# Altium integrated library Lattice CPLD ispMACH.IntLib: 663 symbols (part 22 of 48)
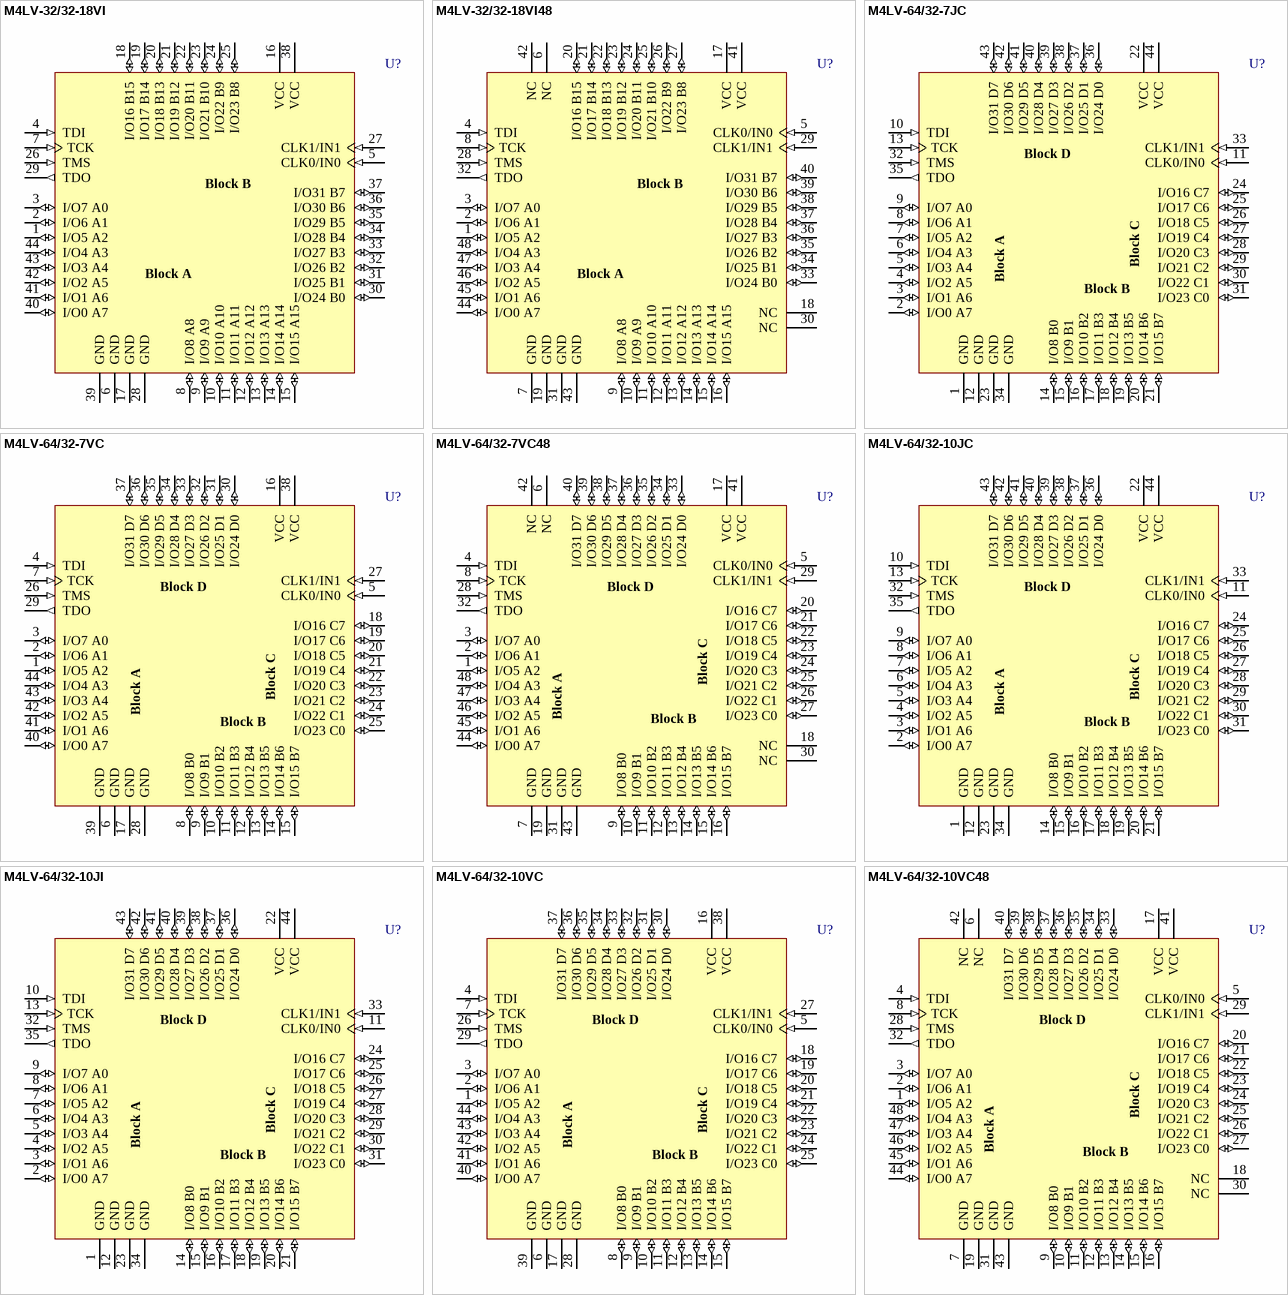
[diagram p327: symbols M4LV-32/32-18VI to M4LV-64/32-10VC48]

## M4LV-64/32-7VC48
designator U?
High-Performance EE CMOS In-System Programmable Logic; Published: 23-Sep-2002; LatestRevisionDate: 13-Apr-2006; LatestRevisionNote: IPC-7351 Footprint Added.; DatasheetVersion: Mar-2000; PackageVersion: pkg_32, Aug-2005; PackageReference: TQFP48; Publisher: Altium Limited; PackageDescription: 48-Pin Thin Quad Flat Pack 0.5 mm Pitch; ComponentLink1Description: Manufacturer Link; ComponentLink1URL: http://www.latticesemi.com/products/mature/index.cfm; ComponentLink2Description: Datasheet; ComponentLink2URL: http://www.latticesemi.com/lit/docs/datasheets/cpld/mach4.pdf
footprint TQFP48_N (Thin QFP, 48-Leads, Body 7x7mm, Pitch 0.5mm, IPC Medium Density)
footprint TQFP48_L (Thin QFP, 48-Leads, Body 7x7mm, Pitch 0.5mm, IPC High Density)
footprint TQFP48_M (Thin QFP, 48-Leads, Body 7x7mm, Pitch 0.5mm, IPC Low Density)
3D model M4LV-TQFP48 (48-Pin Thin Quad Flat Pack 0.5 mm Pitch)
pins: 1 I/O5 A2 (io), 2 I/O6 A1 (io), 3 I/O7 A0 (io), 4 TDI (in), 5 CLK0/IN0 (in), 6 NC, 7 GND (power), 8 TCK (in), 9 I/O8 B0 (io), 10 I/O9 B1 (io), 11 I/O10 B2 (io), 12 I/O11 B3 (io), 13 I/O12 B4 (io), 14 I/O13 B5 (io), 15 I/O14 B6 (io), 16 I/O15 B7 (io), 17 VCC (power), 18 NC, 19 GND (power), 20 I/O16 C7 (io), 21 I/O17 C6 (io), 22 I/O18 C5 (io), 23 I/O19 C4 (io), 24 I/O20 C3 (io), 25 I/O21 C2 (io), 26 I/O22 C1 (io), 27 I/O23 C0 (io), 28 TMS (in), 29 CLK1/IN1 (in), 30 NC, 31 GND (power), 32 TDO (out), 33 I/O24 D0 (io), 34 I/O25 D1 (io), 35 I/O26 D2 (io), 36 I/O27 D3 (io), 37 I/O28 D4 (io), 38 I/O29 D5 (io), 39 I/O30 D6 (io), 40 I/O31 D7 (io), 41 VCC (power), 42 NC, 43 GND (power), 44 I/O0 A7 (io), 45 I/O1 A6 (io), 46 I/O2 A5 (io), 47 I/O3 A4 (io), 48 I/O4 A3 (io)
text: Block D; Block C; Block A; Block B

## M4LV-64/32-10JC
designator U?
High-Performance EE CMOS In-System Programmable Logic; Published: 23-Sep-2002; LatestRevisionDate: 13-Apr-2006; LatestRevisionNote: IPC-7351 Footprint Added.; DatasheetVersion: Mar-2000; PackageVersion: pkg_32, Aug-2005; PackageReference: PLCC44; Publisher: Altium Limited; PackageDescription: 44-Pin Leaded Chip Carrier 1.27 mm Pitch; Code_IPC: PLCC-44; ComponentLink1Description: Manufacturer Link; ComponentLink1URL: http://www.latticesemi.com/products/mature/index.cfm; ComponentLink2Description: Datasheet; ComponentLink2URL: http://www.latticesemi.com/lit/docs/datasheets/cpld/mach4.pdf
footprint PLCC44_N (Leaded Chip Carrier, 44-Leads, Body 16.6x16.6mm, Pitch 1.27mm, IPC Medium Density)
footprint PLCC44_L (Leaded Chip Carrier, 44-Leads, Body 16.6x16.6mm, Pitch 1.27mm, IPC High Density)
footprint PLCC44_M (Leaded Chip Carrier, 44-Leads, Body 16.6x16.6mm, Pitch 1.27mm, IPC Low Density)
3D model M4LV-PLCC44 (44-Pin Leaded Chip Carrier 1.27 mm Pitch)
pins: 1 GND (power), 2 I/O0 A7 (io), 3 I/O1 A6 (io), 4 I/O2 A5 (io), 5 I/O3 A4 (io), 6 I/O4 A3 (io), 7 I/O5 A2 (io), 8 I/O6 A1 (io), 9 I/O7 A0 (io), 10 TDI (in), 11 CLK0/IN0 (in), 12 GND (power), 13 TCK (in), 14 I/O8 B0 (io), 15 I/O9 B1 (io), 16 I/O10 B2 (io), 17 I/O11 B3 (io), 18 I/O12 B4 (io), 19 I/O13 B5 (io), 20 I/O14 B6 (io), 21 I/O15 B7 (io), 22 VCC (power), 23 GND (power), 24 I/O16 C7 (io), 25 I/O17 C6 (io), 26 I/O18 C5 (io), 27 I/O19 C4 (io), 28 I/O20 C3 (io), 29 I/O21 C2 (io), 30 I/O22 C1 (io), 31 I/O23 C0 (io), 32 TMS (in), 33 CLK1/IN1 (in), 34 GND (power), 35 TDO (out), 36 I/O24 D0 (io), 37 I/O25 D1 (io), 38 I/O26 D2 (io), 39 I/O27 D3 (io), 40 I/O28 D4 (io), 41 I/O29 D5 (io), 42 I/O30 D6 (io), 43 I/O31 D7 (io), 44 VCC (power)
text: Block D; Block C; Block A; Block B

## M4LV-64/32-10JI
designator U?
High-Performance EE CMOS In-System Programmable Logic; Published: 23-Sep-2002; LatestRevisionDate: 13-Apr-2006; LatestRevisionNote: IPC-7351 Footprint Added.; DatasheetVersion: Mar-2000; PackageVersion: pkg_32, Aug-2005; PackageReference: PLCC44; Publisher: Altium Limited; PackageDescription: 44-Pin Leaded Chip Carrier 1.27 mm Pitch; Code_IPC: PLCC-44; ComponentLink1Description: Manufacturer Link; ComponentLink1URL: http://www.latticesemi.com/products/mature/index.cfm; ComponentLink2Description: Datasheet; ComponentLink2URL: http://www.latticesemi.com/lit/docs/datasheets/cpld/mach4.pdf
footprint PLCC44_N (Leaded Chip Carrier, 44-Leads, Body 16.6x16.6mm, Pitch 1.27mm, IPC Medium Density)
footprint PLCC44_L (Leaded Chip Carrier, 44-Leads, Body 16.6x16.6mm, Pitch 1.27mm, IPC High Density)
footprint PLCC44_M (Leaded Chip Carrier, 44-Leads, Body 16.6x16.6mm, Pitch 1.27mm, IPC Low Density)
3D model M4LV-PLCC44 (44-Pin Leaded Chip Carrier 1.27 mm Pitch)
pins: 1 GND (power), 2 I/O0 A7 (io), 3 I/O1 A6 (io), 4 I/O2 A5 (io), 5 I/O3 A4 (io), 6 I/O4 A3 (io), 7 I/O5 A2 (io), 8 I/O6 A1 (io), 9 I/O7 A0 (io), 10 TDI (in), 11 CLK0/IN0 (in), 12 GND (power), 13 TCK (in), 14 I/O8 B0 (io), 15 I/O9 B1 (io), 16 I/O10 B2 (io), 17 I/O11 B3 (io), 18 I/O12 B4 (io), 19 I/O13 B5 (io), 20 I/O14 B6 (io), 21 I/O15 B7 (io), 22 VCC (power), 23 GND (power), 24 I/O16 C7 (io), 25 I/O17 C6 (io), 26 I/O18 C5 (io), 27 I/O19 C4 (io), 28 I/O20 C3 (io), 29 I/O21 C2 (io), 30 I/O22 C1 (io), 31 I/O23 C0 (io), 32 TMS (in), 33 CLK1/IN1 (in), 34 GND (power), 35 TDO (out), 36 I/O24 D0 (io), 37 I/O25 D1 (io), 38 I/O26 D2 (io), 39 I/O27 D3 (io), 40 I/O28 D4 (io), 41 I/O29 D5 (io), 42 I/O30 D6 (io), 43 I/O31 D7 (io), 44 VCC (power)
text: Block D; Block C; Block A; Block B

## M4LV-64/32-10VC
designator U?
High-Performance EE CMOS In-System Programmable Logic; Published: 23-Sep-2002; LatestRevisionDate: 13-Apr-2006; LatestRevisionNote: IPC-7351 Footprint Added.; DatasheetVersion: Mar-2000; PackageVersion: pkg_32, Aug-2005; PackageReference: TQFP44; Publisher: Altium Limited; PackageDescription: 44-Pin Thin Quad Flat Pack 0.8 mm Pitch; ComponentLink1Description: Manufacturer Link; ComponentLink1URL: http://www.latticesemi.com/products/mature/index.cfm; ComponentLink2Description: Datasheet; ComponentLink2URL: http://www.latticesemi.com/lit/docs/datasheets/cpld/mach4.pdf
footprint TQFP44_N (Thin QFP, 44-Leads, Body 10x10mm, Pitch 0.8mm, IPC Medium Density)
footprint TQFP44_L (Thin QFP, 44-Leads, Body 10x10mm, Pitch 0.8mm, IPC High Density)
footprint TQFP44_M (Thin QFP, 44-Leads, Body 10x10mm, Pitch 0.8mm, IPC Low Density)
3D model M4LV-TQFP44 (44-Pin Thin Quad Flat Pack 0.8 mm Pitch)
pins: 1 I/O5 A2 (io), 2 I/O6 A1 (io), 3 I/O7 A0 (io), 4 TDI (in), 5 CLK0/IN0 (in), 6 GND (power), 7 TCK (in), 8 I/O8 B0 (io), 9 I/O9 B1 (io), 10 I/O10 B2 (io), 11 I/O11 B3 (io), 12 I/O12 B4 (io), 13 I/O13 B5 (io), 14 I/O14 B6 (io), 15 I/O15 B7 (io), 16 VCC (power), 17 GND (power), 18 I/O16 C7 (io), 19 I/O17 C6 (io), 20 I/O18 C5 (io), 21 I/O19 C4 (io), 22 I/O20 C3 (io), 23 I/O21 C2 (io), 24 I/O22 C1 (io), 25 I/O23 C0 (io), 26 TMS (in), 27 CLK1/IN1 (in), 28 GND (power), 29 TDO (out), 30 I/O24 D0 (io), 31 I/O25 D1 (io), 32 I/O26 D2 (io), 33 I/O27 D3 (io), 34 I/O28 D4 (io), 35 I/O29 D5 (io), 36 I/O30 D6 (io), 37 I/O31 D7 (io), 38 VCC (power), 39 GND (power), 40 I/O0 A7 (io), 41 I/O1 A6 (io), 42 I/O2 A5 (io), 43 I/O3 A4 (io), 44 I/O4 A3 (io)
text: Block D; Block C; Block A; Block B

## M4LV-64/32-10VC48
designator U?
High-Performance EE CMOS In-System Programmable Logic; Published: 23-Sep-2002; LatestRevisionDate: 13-Apr-2006; LatestRevisionNote: IPC-7351 Footprint Added.; DatasheetVersion: Mar-2000; PackageVersion: pkg_32, Aug-2005; PackageReference: TQFP48; Publisher: Altium Limited; PackageDescription: 48-Pin Thin Quad Flat Pack 0.5 mm Pitch; ComponentLink1Description: Manufacturer Link; ComponentLink1URL: http://www.latticesemi.com/products/mature/index.cfm; ComponentLink2Description: Datasheet; ComponentLink2URL: http://www.latticesemi.com/lit/docs/datasheets/cpld/mach4.pdf
footprint TQFP48_N (Thin QFP, 48-Leads, Body 7x7mm, Pitch 0.5mm, IPC Medium Density)
footprint TQFP48_L (Thin QFP, 48-Leads, Body 7x7mm, Pitch 0.5mm, IPC High Density)
footprint TQFP48_M (Thin QFP, 48-Leads, Body 7x7mm, Pitch 0.5mm, IPC Low Density)
3D model M4LV-TQFP48 (48-Pin Thin Quad Flat Pack 0.5 mm Pitch)
pins: 1 I/O5 A2 (io), 2 I/O6 A1 (io), 3 I/O7 A0 (io), 4 TDI (in), 5 CLK0/IN0 (in), 6 NC, 7 GND (power), 8 TCK (in), 9 I/O8 B0 (io), 10 I/O9 B1 (io), 11 I/O10 B2 (io), 12 I/O11 B3 (io), 13 I/O12 B4 (io), 14 I/O13 B5 (io), 15 I/O14 B6 (io), 16 I/O15 B7 (io), 17 VCC (power), 18 NC, 19 GND (power), 20 I/O16 C7 (io), 21 I/O17 C6 (io), 22 I/O18 C5 (io), 23 I/O19 C4 (io), 24 I/O20 C3 (io), 25 I/O21 C2 (io), 26 I/O22 C1 (io), 27 I/O23 C0 (io), 28 TMS (in), 29 CLK1/IN1 (in), 30 NC, 31 GND (power), 32 TDO (out), 33 I/O24 D0 (io), 34 I/O25 D1 (io), 35 I/O26 D2 (io), 36 I/O27 D3 (io), 37 I/O28 D4 (io), 38 I/O29 D5 (io), 39 I/O30 D6 (io), 40 I/O31 D7 (io), 41 VCC (power), 42 NC, 43 GND (power), 44 I/O0 A7 (io), 45 I/O1 A6 (io), 46 I/O2 A5 (io), 47 I/O3 A4 (io), 48 I/O4 A3 (io)
text: Block D; Block C; Block A; Block B

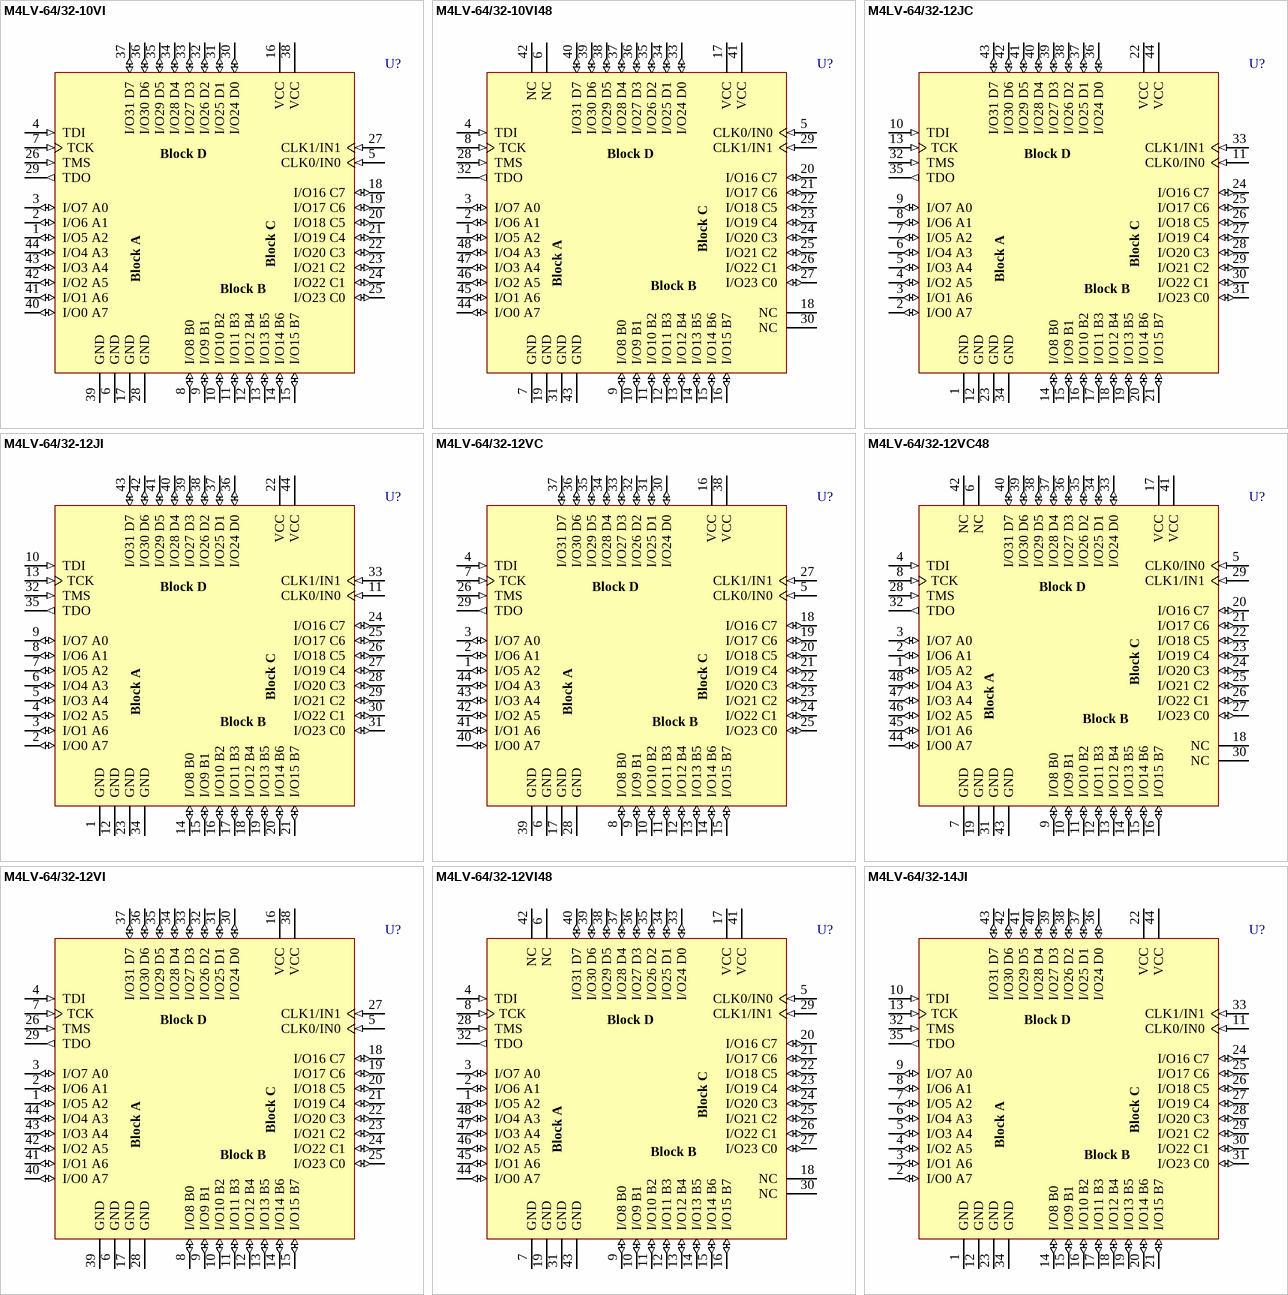
[diagram p133: symbols M4LV-64/32-10VI to M4LV-64/32-14JI]

## M4LV-64/32-10VI
designator U?
High-Performance EE CMOS In-System Programmable Logic; Published: 23-Sep-2002; LatestRevisionDate: 13-Apr-2006; LatestRevisionNote: IPC-7351 Footprint Added.; DatasheetVersion: Mar-2000; PackageVersion: pkg_32, Aug-2005; PackageReference: TQFP44; Publisher: Altium Limited; PackageDescription: 44-Pin Thin Quad Flat Pack 0.8 mm Pitch; ComponentLink1Description: Manufacturer Link; ComponentLink1URL: http://www.latticesemi.com/products/mature/index.cfm; ComponentLink2Description: Datasheet; ComponentLink2URL: http://www.latticesemi.com/lit/docs/datasheets/cpld/mach4.pdf
footprint TQFP44_N (Thin QFP, 44-Leads, Body 10x10mm, Pitch 0.8mm, IPC Medium Density)
footprint TQFP44_L (Thin QFP, 44-Leads, Body 10x10mm, Pitch 0.8mm, IPC High Density)
footprint TQFP44_M (Thin QFP, 44-Leads, Body 10x10mm, Pitch 0.8mm, IPC Low Density)
3D model M4LV-TQFP44 (44-Pin Thin Quad Flat Pack 0.8 mm Pitch)
pins: 1 I/O5 A2 (io), 2 I/O6 A1 (io), 3 I/O7 A0 (io), 4 TDI (in), 5 CLK0/IN0 (in), 6 GND (power), 7 TCK (in), 8 I/O8 B0 (io), 9 I/O9 B1 (io), 10 I/O10 B2 (io), 11 I/O11 B3 (io), 12 I/O12 B4 (io), 13 I/O13 B5 (io), 14 I/O14 B6 (io), 15 I/O15 B7 (io), 16 VCC (power), 17 GND (power), 18 I/O16 C7 (io), 19 I/O17 C6 (io), 20 I/O18 C5 (io), 21 I/O19 C4 (io), 22 I/O20 C3 (io), 23 I/O21 C2 (io), 24 I/O22 C1 (io), 25 I/O23 C0 (io), 26 TMS (in), 27 CLK1/IN1 (in), 28 GND (power), 29 TDO (out), 30 I/O24 D0 (io), 31 I/O25 D1 (io), 32 I/O26 D2 (io), 33 I/O27 D3 (io), 34 I/O28 D4 (io), 35 I/O29 D5 (io), 36 I/O30 D6 (io), 37 I/O31 D7 (io), 38 VCC (power), 39 GND (power), 40 I/O0 A7 (io), 41 I/O1 A6 (io), 42 I/O2 A5 (io), 43 I/O3 A4 (io), 44 I/O4 A3 (io)
text: Block D; Block C; Block A; Block B

## M4LV-64/32-10VI48
designator U?
High-Performance EE CMOS In-System Programmable Logic; Published: 23-Sep-2002; LatestRevisionDate: 13-Apr-2006; LatestRevisionNote: IPC-7351 Footprint Added.; DatasheetVersion: Mar-2000; PackageVersion: pkg_32, Aug-2005; PackageReference: TQFP48; Publisher: Altium Limited; PackageDescription: 48-Pin Thin Quad Flat Pack 0.5 mm Pitch; ComponentLink1Description: Manufacturer Link; ComponentLink1URL: http://www.latticesemi.com/products/mature/index.cfm; ComponentLink2Description: Datasheet; ComponentLink2URL: http://www.latticesemi.com/lit/docs/datasheets/cpld/mach4.pdf
footprint TQFP48_N (Thin QFP, 48-Leads, Body 7x7mm, Pitch 0.5mm, IPC Medium Density)
footprint TQFP48_L (Thin QFP, 48-Leads, Body 7x7mm, Pitch 0.5mm, IPC High Density)
footprint TQFP48_M (Thin QFP, 48-Leads, Body 7x7mm, Pitch 0.5mm, IPC Low Density)
3D model M4LV-TQFP48 (48-Pin Thin Quad Flat Pack 0.5 mm Pitch)
pins: 1 I/O5 A2 (io), 2 I/O6 A1 (io), 3 I/O7 A0 (io), 4 TDI (in), 5 CLK0/IN0 (in), 6 NC, 7 GND (power), 8 TCK (in), 9 I/O8 B0 (io), 10 I/O9 B1 (io), 11 I/O10 B2 (io), 12 I/O11 B3 (io), 13 I/O12 B4 (io), 14 I/O13 B5 (io), 15 I/O14 B6 (io), 16 I/O15 B7 (io), 17 VCC (power), 18 NC, 19 GND (power), 20 I/O16 C7 (io), 21 I/O17 C6 (io), 22 I/O18 C5 (io), 23 I/O19 C4 (io), 24 I/O20 C3 (io), 25 I/O21 C2 (io), 26 I/O22 C1 (io), 27 I/O23 C0 (io), 28 TMS (in), 29 CLK1/IN1 (in), 30 NC, 31 GND (power), 32 TDO (out), 33 I/O24 D0 (io), 34 I/O25 D1 (io), 35 I/O26 D2 (io), 36 I/O27 D3 (io), 37 I/O28 D4 (io), 38 I/O29 D5 (io), 39 I/O30 D6 (io), 40 I/O31 D7 (io), 41 VCC (power), 42 NC, 43 GND (power), 44 I/O0 A7 (io), 45 I/O1 A6 (io), 46 I/O2 A5 (io), 47 I/O3 A4 (io), 48 I/O4 A3 (io)
text: Block D; Block C; Block A; Block B

## M4LV-64/32-12JC
designator U?
High-Performance EE CMOS In-System Programmable Logic; Published: 23-Sep-2002; LatestRevisionDate: 13-Apr-2006; LatestRevisionNote: IPC-7351 Footprint Added.; DatasheetVersion: Mar-2000; PackageVersion: pkg_32, Aug-2005; PackageReference: PLCC44; Publisher: Altium Limited; PackageDescription: 44-Pin Leaded Chip Carrier 1.27 mm Pitch; Code_IPC: PLCC-44; ComponentLink1Description: Manufacturer Link; ComponentLink1URL: http://www.latticesemi.com/products/mature/index.cfm; ComponentLink2Description: Datasheet; ComponentLink2URL: http://www.latticesemi.com/lit/docs/datasheets/cpld/mach4.pdf
footprint PLCC44_N (Leaded Chip Carrier, 44-Leads, Body 16.6x16.6mm, Pitch 1.27mm, IPC Medium Density)
footprint PLCC44_L (Leaded Chip Carrier, 44-Leads, Body 16.6x16.6mm, Pitch 1.27mm, IPC High Density)
footprint PLCC44_M (Leaded Chip Carrier, 44-Leads, Body 16.6x16.6mm, Pitch 1.27mm, IPC Low Density)
3D model M4LV-PLCC44 (44-Pin Leaded Chip Carrier 1.27 mm Pitch)
pins: 1 GND (power), 2 I/O0 A7 (io), 3 I/O1 A6 (io), 4 I/O2 A5 (io), 5 I/O3 A4 (io), 6 I/O4 A3 (io), 7 I/O5 A2 (io), 8 I/O6 A1 (io), 9 I/O7 A0 (io), 10 TDI (in), 11 CLK0/IN0 (in), 12 GND (power), 13 TCK (in), 14 I/O8 B0 (io), 15 I/O9 B1 (io), 16 I/O10 B2 (io), 17 I/O11 B3 (io), 18 I/O12 B4 (io), 19 I/O13 B5 (io), 20 I/O14 B6 (io), 21 I/O15 B7 (io), 22 VCC (power), 23 GND (power), 24 I/O16 C7 (io), 25 I/O17 C6 (io), 26 I/O18 C5 (io), 27 I/O19 C4 (io), 28 I/O20 C3 (io), 29 I/O21 C2 (io), 30 I/O22 C1 (io), 31 I/O23 C0 (io), 32 TMS (in), 33 CLK1/IN1 (in), 34 GND (power), 35 TDO (out), 36 I/O24 D0 (io), 37 I/O25 D1 (io), 38 I/O26 D2 (io), 39 I/O27 D3 (io), 40 I/O28 D4 (io), 41 I/O29 D5 (io), 42 I/O30 D6 (io), 43 I/O31 D7 (io), 44 VCC (power)
text: Block D; Block C; Block A; Block B

## M4LV-64/32-12JI
designator U?
High-Performance EE CMOS In-System Programmable Logic; Published: 23-Sep-2002; LatestRevisionDate: 13-Apr-2006; LatestRevisionNote: IPC-7351 Footprint Added.; DatasheetVersion: Mar-2000; PackageVersion: pkg_32, Aug-2005; PackageReference: PLCC44; Publisher: Altium Limited; PackageDescription: 44-Pin Leaded Chip Carrier 1.27 mm Pitch; Code_IPC: PLCC-44; ComponentLink1Description: Manufacturer Link; ComponentLink1URL: http://www.latticesemi.com/products/mature/index.cfm; ComponentLink2Description: Datasheet; ComponentLink2URL: http://www.latticesemi.com/lit/docs/datasheets/cpld/mach4.pdf
footprint PLCC44_N (Leaded Chip Carrier, 44-Leads, Body 16.6x16.6mm, Pitch 1.27mm, IPC Medium Density)
footprint PLCC44_L (Leaded Chip Carrier, 44-Leads, Body 16.6x16.6mm, Pitch 1.27mm, IPC High Density)
footprint PLCC44_M (Leaded Chip Carrier, 44-Leads, Body 16.6x16.6mm, Pitch 1.27mm, IPC Low Density)
3D model M4LV-PLCC44 (44-Pin Leaded Chip Carrier 1.27 mm Pitch)
pins: 1 GND (power), 2 I/O0 A7 (io), 3 I/O1 A6 (io), 4 I/O2 A5 (io), 5 I/O3 A4 (io), 6 I/O4 A3 (io), 7 I/O5 A2 (io), 8 I/O6 A1 (io), 9 I/O7 A0 (io), 10 TDI (in), 11 CLK0/IN0 (in), 12 GND (power), 13 TCK (in), 14 I/O8 B0 (io), 15 I/O9 B1 (io), 16 I/O10 B2 (io), 17 I/O11 B3 (io), 18 I/O12 B4 (io), 19 I/O13 B5 (io), 20 I/O14 B6 (io), 21 I/O15 B7 (io), 22 VCC (power), 23 GND (power), 24 I/O16 C7 (io), 25 I/O17 C6 (io), 26 I/O18 C5 (io), 27 I/O19 C4 (io), 28 I/O20 C3 (io), 29 I/O21 C2 (io), 30 I/O22 C1 (io), 31 I/O23 C0 (io), 32 TMS (in), 33 CLK1/IN1 (in), 34 GND (power), 35 TDO (out), 36 I/O24 D0 (io), 37 I/O25 D1 (io), 38 I/O26 D2 (io), 39 I/O27 D3 (io), 40 I/O28 D4 (io), 41 I/O29 D5 (io), 42 I/O30 D6 (io), 43 I/O31 D7 (io), 44 VCC (power)
text: Block D; Block C; Block A; Block B

## M4LV-64/32-12VC
designator U?
High-Performance EE CMOS In-System Programmable Logic; Published: 23-Sep-2002; LatestRevisionDate: 13-Apr-2006; LatestRevisionNote: IPC-7351 Footprint Added.; DatasheetVersion: Mar-2000; PackageVersion: pkg_32, Aug-2005; PackageReference: TQFP44; Publisher: Altium Limited; PackageDescription: 44-Pin Thin Quad Flat Pack 0.8 mm Pitch; ComponentLink1Description: Manufacturer Link; ComponentLink1URL: http://www.latticesemi.com/products/mature/index.cfm; ComponentLink2Description: Datasheet; ComponentLink2URL: http://www.latticesemi.com/lit/docs/datasheets/cpld/mach4.pdf
footprint TQFP44_N (Thin QFP, 44-Leads, Body 10x10mm, Pitch 0.8mm, IPC Medium Density)
footprint TQFP44_L (Thin QFP, 44-Leads, Body 10x10mm, Pitch 0.8mm, IPC High Density)
footprint TQFP44_M (Thin QFP, 44-Leads, Body 10x10mm, Pitch 0.8mm, IPC Low Density)
3D model M4LV-TQFP44 (44-Pin Thin Quad Flat Pack 0.8 mm Pitch)
pins: 1 I/O5 A2 (io), 2 I/O6 A1 (io), 3 I/O7 A0 (io), 4 TDI (in), 5 CLK0/IN0 (in), 6 GND (power), 7 TCK (in), 8 I/O8 B0 (io), 9 I/O9 B1 (io), 10 I/O10 B2 (io), 11 I/O11 B3 (io), 12 I/O12 B4 (io), 13 I/O13 B5 (io), 14 I/O14 B6 (io), 15 I/O15 B7 (io), 16 VCC (power), 17 GND (power), 18 I/O16 C7 (io), 19 I/O17 C6 (io), 20 I/O18 C5 (io), 21 I/O19 C4 (io), 22 I/O20 C3 (io), 23 I/O21 C2 (io), 24 I/O22 C1 (io), 25 I/O23 C0 (io), 26 TMS (in), 27 CLK1/IN1 (in), 28 GND (power), 29 TDO (out), 30 I/O24 D0 (io), 31 I/O25 D1 (io), 32 I/O26 D2 (io), 33 I/O27 D3 (io), 34 I/O28 D4 (io), 35 I/O29 D5 (io), 36 I/O30 D6 (io), 37 I/O31 D7 (io), 38 VCC (power), 39 GND (power), 40 I/O0 A7 (io), 41 I/O1 A6 (io), 42 I/O2 A5 (io), 43 I/O3 A4 (io), 44 I/O4 A3 (io)
text: Block D; Block C; Block A; Block B

## M4LV-64/32-12VC48
designator U?
High-Performance EE CMOS In-System Programmable Logic; Published: 23-Sep-2002; LatestRevisionDate: 13-Apr-2006; LatestRevisionNote: IPC-7351 Footprint Added.; DatasheetVersion: Mar-2000; PackageVersion: pkg_32, Aug-2005; PackageReference: TQFP48; Publisher: Altium Limited; PackageDescription: 48-Pin Thin Quad Flat Pack 0.5 mm Pitch; ComponentLink1Description: Manufacturer Link; ComponentLink1URL: http://www.latticesemi.com/products/mature/index.cfm; ComponentLink2Description: Datasheet; ComponentLink2URL: http://www.latticesemi.com/lit/docs/datasheets/cpld/mach4.pdf
footprint TQFP48_N (Thin QFP, 48-Leads, Body 7x7mm, Pitch 0.5mm, IPC Medium Density)
footprint TQFP48_L (Thin QFP, 48-Leads, Body 7x7mm, Pitch 0.5mm, IPC High Density)
footprint TQFP48_M (Thin QFP, 48-Leads, Body 7x7mm, Pitch 0.5mm, IPC Low Density)
3D model M4LV-TQFP48 (48-Pin Thin Quad Flat Pack 0.5 mm Pitch)
pins: 1 I/O5 A2 (io), 2 I/O6 A1 (io), 3 I/O7 A0 (io), 4 TDI (in), 5 CLK0/IN0 (in), 6 NC, 7 GND (power), 8 TCK (in), 9 I/O8 B0 (io), 10 I/O9 B1 (io), 11 I/O10 B2 (io), 12 I/O11 B3 (io), 13 I/O12 B4 (io), 14 I/O13 B5 (io), 15 I/O14 B6 (io), 16 I/O15 B7 (io), 17 VCC (power), 18 NC, 19 GND (power), 20 I/O16 C7 (io), 21 I/O17 C6 (io), 22 I/O18 C5 (io), 23 I/O19 C4 (io), 24 I/O20 C3 (io), 25 I/O21 C2 (io), 26 I/O22 C1 (io), 27 I/O23 C0 (io), 28 TMS (in), 29 CLK1/IN1 (in), 30 NC, 31 GND (power), 32 TDO (out), 33 I/O24 D0 (io), 34 I/O25 D1 (io), 35 I/O26 D2 (io), 36 I/O27 D3 (io), 37 I/O28 D4 (io), 38 I/O29 D5 (io), 39 I/O30 D6 (io), 40 I/O31 D7 (io), 41 VCC (power), 42 NC, 43 GND (power), 44 I/O0 A7 (io), 45 I/O1 A6 (io), 46 I/O2 A5 (io), 47 I/O3 A4 (io), 48 I/O4 A3 (io)
text: Block D; Block C; Block A; Block B

## M4LV-64/32-12VI
designator U?
High-Performance EE CMOS In-System Programmable Logic; Published: 23-Sep-2002; LatestRevisionDate: 13-Apr-2006; LatestRevisionNote: IPC-7351 Footprint Added.; DatasheetVersion: Mar-2000; PackageVersion: pkg_32, Aug-2005; PackageReference: TQFP44; Publisher: Altium Limited; PackageDescription: 44-Pin Thin Quad Flat Pack 0.8 mm Pitch; ComponentLink1Description: Manufacturer Link; ComponentLink1URL: http://www.latticesemi.com/products/mature/index.cfm; ComponentLink2Description: Datasheet; ComponentLink2URL: http://www.latticesemi.com/lit/docs/datasheets/cpld/mach4.pdf
footprint TQFP44_N (Thin QFP, 44-Leads, Body 10x10mm, Pitch 0.8mm, IPC Medium Density)
footprint TQFP44_L (Thin QFP, 44-Leads, Body 10x10mm, Pitch 0.8mm, IPC High Density)
footprint TQFP44_M (Thin QFP, 44-Leads, Body 10x10mm, Pitch 0.8mm, IPC Low Density)
3D model M4LV-TQFP44 (44-Pin Thin Quad Flat Pack 0.8 mm Pitch)
pins: 1 I/O5 A2 (io), 2 I/O6 A1 (io), 3 I/O7 A0 (io), 4 TDI (in), 5 CLK0/IN0 (in), 6 GND (power), 7 TCK (in), 8 I/O8 B0 (io), 9 I/O9 B1 (io), 10 I/O10 B2 (io), 11 I/O11 B3 (io), 12 I/O12 B4 (io), 13 I/O13 B5 (io), 14 I/O14 B6 (io), 15 I/O15 B7 (io), 16 VCC (power), 17 GND (power), 18 I/O16 C7 (io), 19 I/O17 C6 (io), 20 I/O18 C5 (io), 21 I/O19 C4 (io), 22 I/O20 C3 (io), 23 I/O21 C2 (io), 24 I/O22 C1 (io), 25 I/O23 C0 (io), 26 TMS (in), 27 CLK1/IN1 (in), 28 GND (power), 29 TDO (out), 30 I/O24 D0 (io), 31 I/O25 D1 (io), 32 I/O26 D2 (io), 33 I/O27 D3 (io), 34 I/O28 D4 (io), 35 I/O29 D5 (io), 36 I/O30 D6 (io), 37 I/O31 D7 (io), 38 VCC (power), 39 GND (power), 40 I/O0 A7 (io), 41 I/O1 A6 (io), 42 I/O2 A5 (io), 43 I/O3 A4 (io), 44 I/O4 A3 (io)
text: Block D; Block C; Block A; Block B

## M4LV-64/32-12VI48
designator U?
High-Performance EE CMOS In-System Programmable Logic; Published: 23-Sep-2002; LatestRevisionDate: 13-Apr-2006; LatestRevisionNote: IPC-7351 Footprint Added.; DatasheetVersion: Mar-2000; PackageVersion: pkg_32, Aug-2005; PackageReference: TQFP48; Publisher: Altium Limited; PackageDescription: 48-Pin Thin Quad Flat Pack 0.5 mm Pitch; ComponentLink1Description: Manufacturer Link; ComponentLink1URL: http://www.latticesemi.com/products/mature/index.cfm; ComponentLink2Description: Datasheet; ComponentLink2URL: http://www.latticesemi.com/lit/docs/datasheets/cpld/mach4.pdf
footprint TQFP48_N (Thin QFP, 48-Leads, Body 7x7mm, Pitch 0.5mm, IPC Medium Density)
footprint TQFP48_L (Thin QFP, 48-Leads, Body 7x7mm, Pitch 0.5mm, IPC High Density)
footprint TQFP48_M (Thin QFP, 48-Leads, Body 7x7mm, Pitch 0.5mm, IPC Low Density)
3D model M4LV-TQFP48 (48-Pin Thin Quad Flat Pack 0.5 mm Pitch)
pins: 1 I/O5 A2 (io), 2 I/O6 A1 (io), 3 I/O7 A0 (io), 4 TDI (in), 5 CLK0/IN0 (in), 6 NC, 7 GND (power), 8 TCK (in), 9 I/O8 B0 (io), 10 I/O9 B1 (io), 11 I/O10 B2 (io), 12 I/O11 B3 (io), 13 I/O12 B4 (io), 14 I/O13 B5 (io), 15 I/O14 B6 (io), 16 I/O15 B7 (io), 17 VCC (power), 18 NC, 19 GND (power), 20 I/O16 C7 (io), 21 I/O17 C6 (io), 22 I/O18 C5 (io), 23 I/O19 C4 (io), 24 I/O20 C3 (io), 25 I/O21 C2 (io), 26 I/O22 C1 (io), 27 I/O23 C0 (io), 28 TMS (in), 29 CLK1/IN1 (in), 30 NC, 31 GND (power), 32 TDO (out), 33 I/O24 D0 (io), 34 I/O25 D1 (io), 35 I/O26 D2 (io), 36 I/O27 D3 (io), 37 I/O28 D4 (io), 38 I/O29 D5 (io), 39 I/O30 D6 (io), 40 I/O31 D7 (io), 41 VCC (power), 42 NC, 43 GND (power), 44 I/O0 A7 (io), 45 I/O1 A6 (io), 46 I/O2 A5 (io), 47 I/O3 A4 (io), 48 I/O4 A3 (io)
text: Block D; Block C; Block A; Block B

## M4LV-64/32-14JI
designator U?
High-Performance EE CMOS In-System Programmable Logic; Published: 23-Sep-2002; LatestRevisionDate: 13-Apr-2006; LatestRevisionNote: IPC-7351 Footprint Added.; DatasheetVersion: Mar-2000; PackageVersion: pkg_32, Aug-2005; PackageReference: PLCC44; Publisher: Altium Limited; PackageDescription: 44-Pin Leaded Chip Carrier 1.27 mm Pitch; Code_IPC: PLCC-44; ComponentLink1Description: Manufacturer Link; ComponentLink1URL: http://www.latticesemi.com/products/mature/index.cfm; ComponentLink2Description: Datasheet; ComponentLink2URL: http://www.latticesemi.com/lit/docs/datasheets/cpld/mach4.pdf
footprint PLCC44_N (Leaded Chip Carrier, 44-Leads, Body 16.6x16.6mm, Pitch 1.27mm, IPC Medium Density)
footprint PLCC44_L (Leaded Chip Carrier, 44-Leads, Body 16.6x16.6mm, Pitch 1.27mm, IPC High Density)
footprint PLCC44_M (Leaded Chip Carrier, 44-Leads, Body 16.6x16.6mm, Pitch 1.27mm, IPC Low Density)
3D model M4LV-PLCC44 (44-Pin Leaded Chip Carrier 1.27 mm Pitch)
pins: 1 GND (power), 2 I/O0 A7 (io), 3 I/O1 A6 (io), 4 I/O2 A5 (io), 5 I/O3 A4 (io), 6 I/O4 A3 (io), 7 I/O5 A2 (io), 8 I/O6 A1 (io), 9 I/O7 A0 (io), 10 TDI (in), 11 CLK0/IN0 (in), 12 GND (power), 13 TCK (in), 14 I/O8 B0 (io), 15 I/O9 B1 (io), 16 I/O10 B2 (io), 17 I/O11 B3 (io), 18 I/O12 B4 (io), 19 I/O13 B5 (io), 20 I/O14 B6 (io), 21 I/O15 B7 (io), 22 VCC (power), 23 GND (power), 24 I/O16 C7 (io), 25 I/O17 C6 (io), 26 I/O18 C5 (io), 27 I/O19 C4 (io), 28 I/O20 C3 (io), 29 I/O21 C2 (io), 30 I/O22 C1 (io), 31 I/O23 C0 (io), 32 TMS (in), 33 CLK1/IN1 (in), 34 GND (power), 35 TDO (out), 36 I/O24 D0 (io), 37 I/O25 D1 (io), 38 I/O26 D2 (io), 39 I/O27 D3 (io), 40 I/O28 D4 (io), 41 I/O29 D5 (io), 42 I/O30 D6 (io), 43 I/O31 D7 (io), 44 VCC (power)
text: Block D; Block C; Block A; Block B

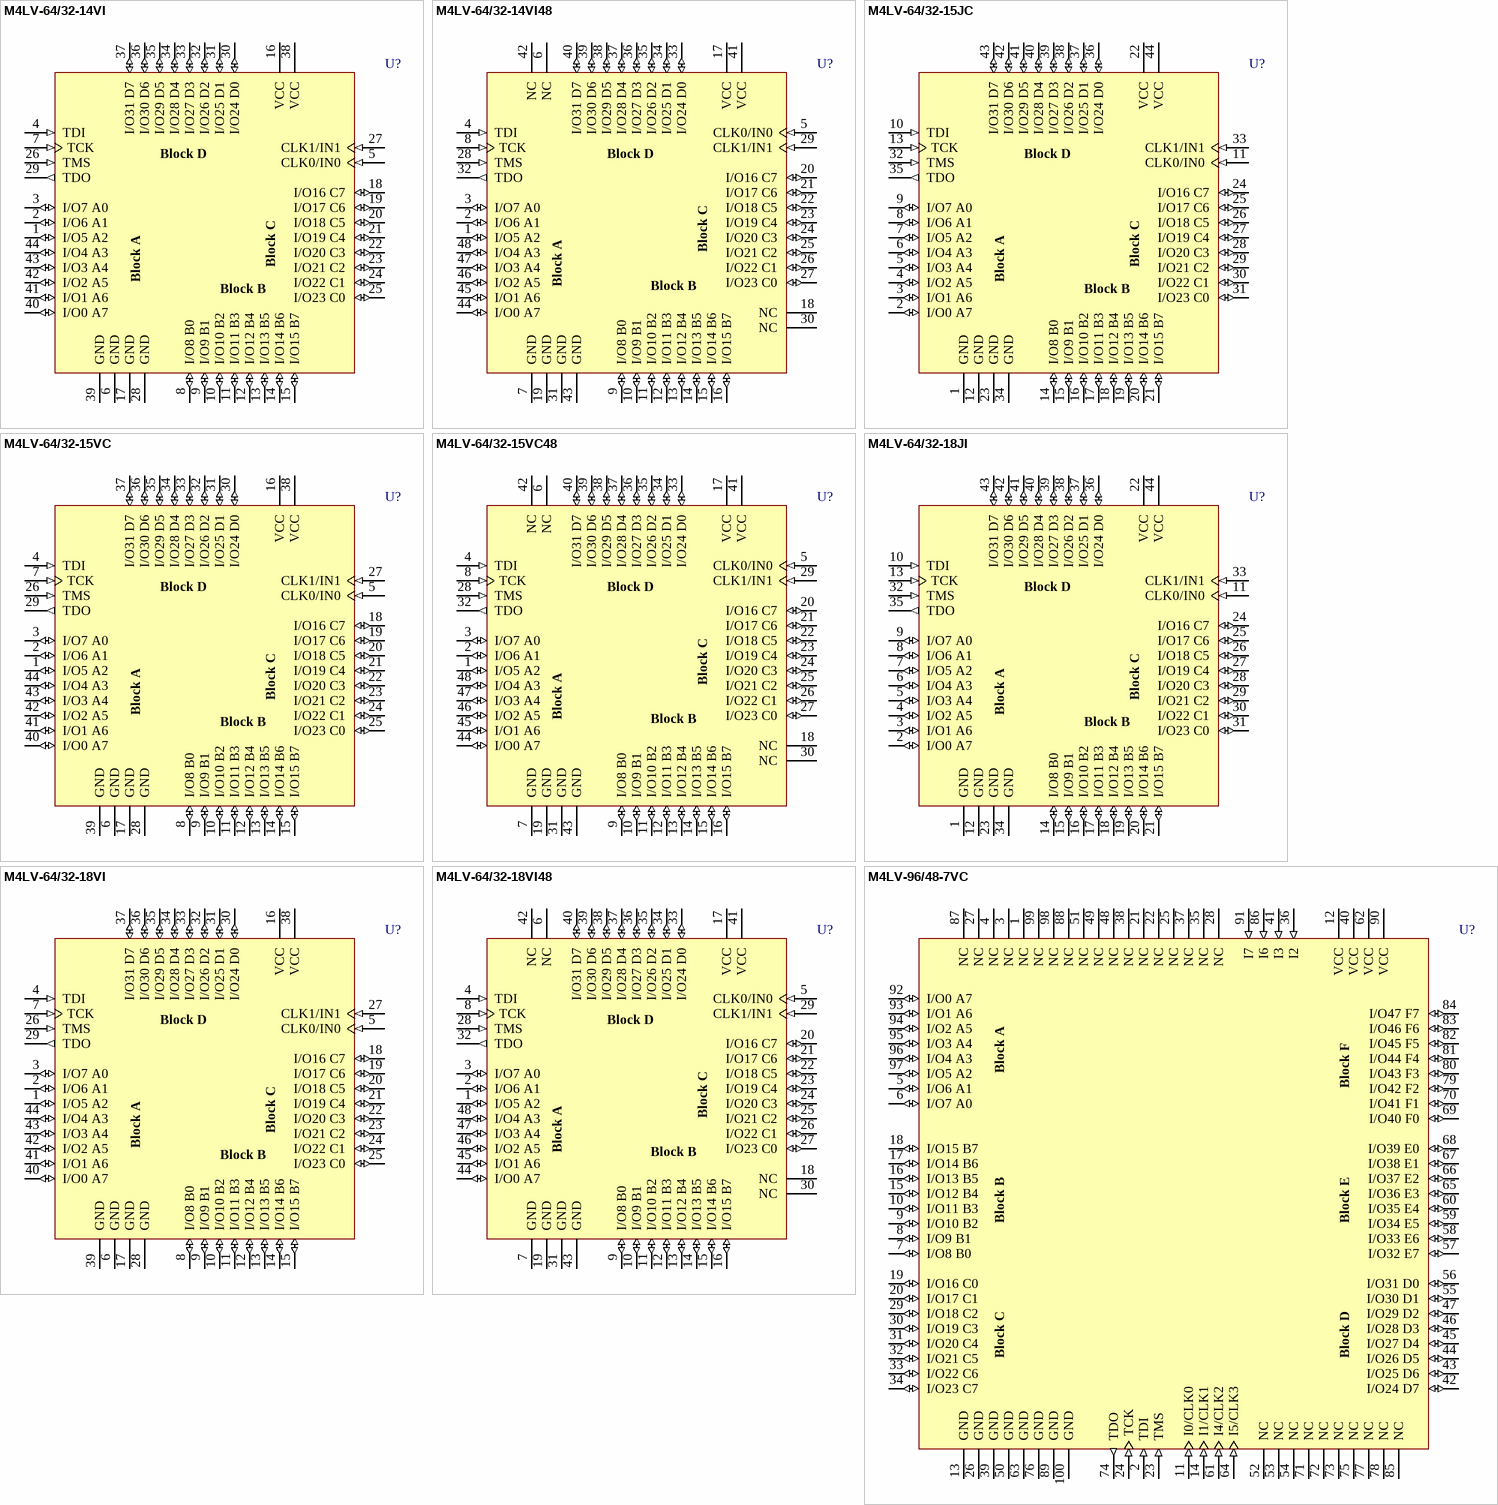
[diagram p134: symbols M4LV-64/32-14VI to M4LV-96/48-7VC]

## M4LV-64/32-14VI
designator U?
High-Performance EE CMOS In-System Programmable Logic; Published: 23-Sep-2002; LatestRevisionDate: 13-Apr-2006; LatestRevisionNote: IPC-7351 Footprint Added.; DatasheetVersion: Mar-2000; PackageVersion: pkg_32, Aug-2005; PackageReference: TQFP44; Publisher: Altium Limited; PackageDescription: 44-Pin Thin Quad Flat Pack 0.8 mm Pitch; ComponentLink1Description: Manufacturer Link; ComponentLink1URL: http://www.latticesemi.com/products/mature/index.cfm; ComponentLink2Description: Datasheet; ComponentLink2URL: http://www.latticesemi.com/lit/docs/datasheets/cpld/mach4.pdf
footprint TQFP44_N (Thin QFP, 44-Leads, Body 10x10mm, Pitch 0.8mm, IPC Medium Density)
footprint TQFP44_L (Thin QFP, 44-Leads, Body 10x10mm, Pitch 0.8mm, IPC High Density)
footprint TQFP44_M (Thin QFP, 44-Leads, Body 10x10mm, Pitch 0.8mm, IPC Low Density)
3D model M4LV-TQFP44 (44-Pin Thin Quad Flat Pack 0.8 mm Pitch)
pins: 1 I/O5 A2 (io), 2 I/O6 A1 (io), 3 I/O7 A0 (io), 4 TDI (in), 5 CLK0/IN0 (in), 6 GND (power), 7 TCK (in), 8 I/O8 B0 (io), 9 I/O9 B1 (io), 10 I/O10 B2 (io), 11 I/O11 B3 (io), 12 I/O12 B4 (io), 13 I/O13 B5 (io), 14 I/O14 B6 (io), 15 I/O15 B7 (io), 16 VCC (power), 17 GND (power), 18 I/O16 C7 (io), 19 I/O17 C6 (io), 20 I/O18 C5 (io), 21 I/O19 C4 (io), 22 I/O20 C3 (io), 23 I/O21 C2 (io), 24 I/O22 C1 (io), 25 I/O23 C0 (io), 26 TMS (in), 27 CLK1/IN1 (in), 28 GND (power), 29 TDO (out), 30 I/O24 D0 (io), 31 I/O25 D1 (io), 32 I/O26 D2 (io), 33 I/O27 D3 (io), 34 I/O28 D4 (io), 35 I/O29 D5 (io), 36 I/O30 D6 (io), 37 I/O31 D7 (io), 38 VCC (power), 39 GND (power), 40 I/O0 A7 (io), 41 I/O1 A6 (io), 42 I/O2 A5 (io), 43 I/O3 A4 (io), 44 I/O4 A3 (io)
text: Block D; Block C; Block A; Block B

## M4LV-64/32-14VI48
designator U?
High-Performance EE CMOS In-System Programmable Logic; Published: 23-Sep-2002; LatestRevisionDate: 13-Apr-2006; LatestRevisionNote: IPC-7351 Footprint Added.; DatasheetVersion: Mar-2000; PackageVersion: pkg_32, Aug-2005; PackageReference: TQFP48; Publisher: Altium Limited; PackageDescription: 48-Pin Thin Quad Flat Pack 0.5 mm Pitch; ComponentLink1Description: Manufacturer Link; ComponentLink1URL: http://www.latticesemi.com/products/mature/index.cfm; ComponentLink2Description: Datasheet; ComponentLink2URL: http://www.latticesemi.com/lit/docs/datasheets/cpld/mach4.pdf
footprint TQFP48_N (Thin QFP, 48-Leads, Body 7x7mm, Pitch 0.5mm, IPC Medium Density)
footprint TQFP48_L (Thin QFP, 48-Leads, Body 7x7mm, Pitch 0.5mm, IPC High Density)
footprint TQFP48_M (Thin QFP, 48-Leads, Body 7x7mm, Pitch 0.5mm, IPC Low Density)
3D model M4LV-TQFP48 (48-Pin Thin Quad Flat Pack 0.5 mm Pitch)
pins: 1 I/O5 A2 (io), 2 I/O6 A1 (io), 3 I/O7 A0 (io), 4 TDI (in), 5 CLK0/IN0 (in), 6 NC, 7 GND (power), 8 TCK (in), 9 I/O8 B0 (io), 10 I/O9 B1 (io), 11 I/O10 B2 (io), 12 I/O11 B3 (io), 13 I/O12 B4 (io), 14 I/O13 B5 (io), 15 I/O14 B6 (io), 16 I/O15 B7 (io), 17 VCC (power), 18 NC, 19 GND (power), 20 I/O16 C7 (io), 21 I/O17 C6 (io), 22 I/O18 C5 (io), 23 I/O19 C4 (io), 24 I/O20 C3 (io), 25 I/O21 C2 (io), 26 I/O22 C1 (io), 27 I/O23 C0 (io), 28 TMS (in), 29 CLK1/IN1 (in), 30 NC, 31 GND (power), 32 TDO (out), 33 I/O24 D0 (io), 34 I/O25 D1 (io), 35 I/O26 D2 (io), 36 I/O27 D3 (io), 37 I/O28 D4 (io), 38 I/O29 D5 (io), 39 I/O30 D6 (io), 40 I/O31 D7 (io), 41 VCC (power), 42 NC, 43 GND (power), 44 I/O0 A7 (io), 45 I/O1 A6 (io), 46 I/O2 A5 (io), 47 I/O3 A4 (io), 48 I/O4 A3 (io)
text: Block D; Block C; Block A; Block B

## M4LV-64/32-15JC
designator U?
High-Performance EE CMOS In-System Programmable Logic; Published: 23-Sep-2002; LatestRevisionDate: 13-Apr-2006; LatestRevisionNote: IPC-7351 Footprint Added.; DatasheetVersion: Mar-2000; PackageVersion: pkg_32, Aug-2005; PackageReference: PLCC44; Publisher: Altium Limited; PackageDescription: 44-Pin Leaded Chip Carrier 1.27 mm Pitch; Code_IPC: PLCC-44; ComponentLink1Description: Manufacturer Link; ComponentLink1URL: http://www.latticesemi.com/products/mature/index.cfm; ComponentLink2Description: Datasheet; ComponentLink2URL: http://www.latticesemi.com/lit/docs/datasheets/cpld/mach4.pdf
footprint PLCC44_N (Leaded Chip Carrier, 44-Leads, Body 16.6x16.6mm, Pitch 1.27mm, IPC Medium Density)
footprint PLCC44_L (Leaded Chip Carrier, 44-Leads, Body 16.6x16.6mm, Pitch 1.27mm, IPC High Density)
footprint PLCC44_M (Leaded Chip Carrier, 44-Leads, Body 16.6x16.6mm, Pitch 1.27mm, IPC Low Density)
3D model M4LV-PLCC44 (44-Pin Leaded Chip Carrier 1.27 mm Pitch)
pins: 1 GND (power), 2 I/O0 A7 (io), 3 I/O1 A6 (io), 4 I/O2 A5 (io), 5 I/O3 A4 (io), 6 I/O4 A3 (io), 7 I/O5 A2 (io), 8 I/O6 A1 (io), 9 I/O7 A0 (io), 10 TDI (in), 11 CLK0/IN0 (in), 12 GND (power), 13 TCK (in), 14 I/O8 B0 (io), 15 I/O9 B1 (io), 16 I/O10 B2 (io), 17 I/O11 B3 (io), 18 I/O12 B4 (io), 19 I/O13 B5 (io), 20 I/O14 B6 (io), 21 I/O15 B7 (io), 22 VCC (power), 23 GND (power), 24 I/O16 C7 (io), 25 I/O17 C6 (io), 26 I/O18 C5 (io), 27 I/O19 C4 (io), 28 I/O20 C3 (io), 29 I/O21 C2 (io), 30 I/O22 C1 (io), 31 I/O23 C0 (io), 32 TMS (in), 33 CLK1/IN1 (in), 34 GND (power), 35 TDO (out), 36 I/O24 D0 (io), 37 I/O25 D1 (io), 38 I/O26 D2 (io), 39 I/O27 D3 (io), 40 I/O28 D4 (io), 41 I/O29 D5 (io), 42 I/O30 D6 (io), 43 I/O31 D7 (io), 44 VCC (power)
text: Block D; Block C; Block A; Block B

## M4LV-64/32-15VC
designator U?
High-Performance EE CMOS In-System Programmable Logic; Published: 23-Sep-2002; LatestRevisionDate: 13-Apr-2006; LatestRevisionNote: IPC-7351 Footprint Added.; DatasheetVersion: Mar-2000; PackageVersion: pkg_32, Aug-2005; PackageReference: TQFP44; Publisher: Altium Limited; PackageDescription: 44-Pin Thin Quad Flat Pack 0.8 mm Pitch; ComponentLink1Description: Manufacturer Link; ComponentLink1URL: http://www.latticesemi.com/products/mature/index.cfm; ComponentLink2Description: Datasheet; ComponentLink2URL: http://www.latticesemi.com/lit/docs/datasheets/cpld/mach4.pdf
footprint TQFP44_N (Thin QFP, 44-Leads, Body 10x10mm, Pitch 0.8mm, IPC Medium Density)
footprint TQFP44_L (Thin QFP, 44-Leads, Body 10x10mm, Pitch 0.8mm, IPC High Density)
footprint TQFP44_M (Thin QFP, 44-Leads, Body 10x10mm, Pitch 0.8mm, IPC Low Density)
3D model M4LV-TQFP44 (44-Pin Thin Quad Flat Pack 0.8 mm Pitch)
pins: 1 I/O5 A2 (io), 2 I/O6 A1 (io), 3 I/O7 A0 (io), 4 TDI (in), 5 CLK0/IN0 (in), 6 GND (power), 7 TCK (in), 8 I/O8 B0 (io), 9 I/O9 B1 (io), 10 I/O10 B2 (io), 11 I/O11 B3 (io), 12 I/O12 B4 (io), 13 I/O13 B5 (io), 14 I/O14 B6 (io), 15 I/O15 B7 (io), 16 VCC (power), 17 GND (power), 18 I/O16 C7 (io), 19 I/O17 C6 (io), 20 I/O18 C5 (io), 21 I/O19 C4 (io), 22 I/O20 C3 (io), 23 I/O21 C2 (io), 24 I/O22 C1 (io), 25 I/O23 C0 (io), 26 TMS (in), 27 CLK1/IN1 (in), 28 GND (power), 29 TDO (out), 30 I/O24 D0 (io), 31 I/O25 D1 (io), 32 I/O26 D2 (io), 33 I/O27 D3 (io), 34 I/O28 D4 (io), 35 I/O29 D5 (io), 36 I/O30 D6 (io), 37 I/O31 D7 (io), 38 VCC (power), 39 GND (power), 40 I/O0 A7 (io), 41 I/O1 A6 (io), 42 I/O2 A5 (io), 43 I/O3 A4 (io), 44 I/O4 A3 (io)
text: Block D; Block C; Block A; Block B

## M4LV-64/32-15VC48
designator U?
High-Performance EE CMOS In-System Programmable Logic; Published: 23-Sep-2002; LatestRevisionDate: 13-Apr-2006; LatestRevisionNote: IPC-7351 Footprint Added.; DatasheetVersion: Mar-2000; PackageVersion: pkg_32, Aug-2005; PackageReference: TQFP48; Publisher: Altium Limited; PackageDescription: 48-Pin Thin Quad Flat Pack 0.5 mm Pitch; ComponentLink1Description: Manufacturer Link; ComponentLink1URL: http://www.latticesemi.com/products/mature/index.cfm; ComponentLink2Description: Datasheet; ComponentLink2URL: http://www.latticesemi.com/lit/docs/datasheets/cpld/mach4.pdf
footprint TQFP48_N (Thin QFP, 48-Leads, Body 7x7mm, Pitch 0.5mm, IPC Medium Density)
footprint TQFP48_L (Thin QFP, 48-Leads, Body 7x7mm, Pitch 0.5mm, IPC High Density)
footprint TQFP48_M (Thin QFP, 48-Leads, Body 7x7mm, Pitch 0.5mm, IPC Low Density)
3D model M4LV-TQFP48 (48-Pin Thin Quad Flat Pack 0.5 mm Pitch)
pins: 1 I/O5 A2 (io), 2 I/O6 A1 (io), 3 I/O7 A0 (io), 4 TDI (in), 5 CLK0/IN0 (in), 6 NC, 7 GND (power), 8 TCK (in), 9 I/O8 B0 (io), 10 I/O9 B1 (io), 11 I/O10 B2 (io), 12 I/O11 B3 (io), 13 I/O12 B4 (io), 14 I/O13 B5 (io), 15 I/O14 B6 (io), 16 I/O15 B7 (io), 17 VCC (power), 18 NC, 19 GND (power), 20 I/O16 C7 (io), 21 I/O17 C6 (io), 22 I/O18 C5 (io), 23 I/O19 C4 (io), 24 I/O20 C3 (io), 25 I/O21 C2 (io), 26 I/O22 C1 (io), 27 I/O23 C0 (io), 28 TMS (in), 29 CLK1/IN1 (in), 30 NC, 31 GND (power), 32 TDO (out), 33 I/O24 D0 (io), 34 I/O25 D1 (io), 35 I/O26 D2 (io), 36 I/O27 D3 (io), 37 I/O28 D4 (io), 38 I/O29 D5 (io), 39 I/O30 D6 (io), 40 I/O31 D7 (io), 41 VCC (power), 42 NC, 43 GND (power), 44 I/O0 A7 (io), 45 I/O1 A6 (io), 46 I/O2 A5 (io), 47 I/O3 A4 (io), 48 I/O4 A3 (io)
text: Block D; Block C; Block A; Block B

## M4LV-64/32-18JI
designator U?
High-Performance EE CMOS In-System Programmable Logic; Published: 23-Sep-2002; LatestRevisionDate: 13-Apr-2006; LatestRevisionNote: IPC-7351 Footprint Added.; DatasheetVersion: Mar-2000; PackageVersion: pkg_32, Aug-2005; PackageReference: PLCC44; Publisher: Altium Limited; PackageDescription: 44-Pin Leaded Chip Carrier 1.27 mm Pitch; Code_IPC: PLCC-44; ComponentLink1Description: Manufacturer Link; ComponentLink1URL: http://www.latticesemi.com/products/mature/index.cfm; ComponentLink2Description: Datasheet; ComponentLink2URL: http://www.latticesemi.com/lit/docs/datasheets/cpld/mach4.pdf
footprint PLCC44_N (Leaded Chip Carrier, 44-Leads, Body 16.6x16.6mm, Pitch 1.27mm, IPC Medium Density)
footprint PLCC44_L (Leaded Chip Carrier, 44-Leads, Body 16.6x16.6mm, Pitch 1.27mm, IPC High Density)
footprint PLCC44_M (Leaded Chip Carrier, 44-Leads, Body 16.6x16.6mm, Pitch 1.27mm, IPC Low Density)
3D model M4LV-PLCC44 (44-Pin Leaded Chip Carrier 1.27 mm Pitch)
pins: 1 GND (power), 2 I/O0 A7 (io), 3 I/O1 A6 (io), 4 I/O2 A5 (io), 5 I/O3 A4 (io), 6 I/O4 A3 (io), 7 I/O5 A2 (io), 8 I/O6 A1 (io), 9 I/O7 A0 (io), 10 TDI (in), 11 CLK0/IN0 (in), 12 GND (power), 13 TCK (in), 14 I/O8 B0 (io), 15 I/O9 B1 (io), 16 I/O10 B2 (io), 17 I/O11 B3 (io), 18 I/O12 B4 (io), 19 I/O13 B5 (io), 20 I/O14 B6 (io), 21 I/O15 B7 (io), 22 VCC (power), 23 GND (power), 24 I/O16 C7 (io), 25 I/O17 C6 (io), 26 I/O18 C5 (io), 27 I/O19 C4 (io), 28 I/O20 C3 (io), 29 I/O21 C2 (io), 30 I/O22 C1 (io), 31 I/O23 C0 (io), 32 TMS (in), 33 CLK1/IN1 (in), 34 GND (power), 35 TDO (out), 36 I/O24 D0 (io), 37 I/O25 D1 (io), 38 I/O26 D2 (io), 39 I/O27 D3 (io), 40 I/O28 D4 (io), 41 I/O29 D5 (io), 42 I/O30 D6 (io), 43 I/O31 D7 (io), 44 VCC (power)
text: Block D; Block C; Block A; Block B

## M4LV-64/32-18VI
designator U?
High-Performance EE CMOS In-System Programmable Logic; Published: 23-Sep-2002; LatestRevisionDate: 13-Apr-2006; LatestRevisionNote: IPC-7351 Footprint Added.; DatasheetVersion: Mar-2000; PackageVersion: pkg_32, Aug-2005; PackageReference: TQFP44; Publisher: Altium Limited; PackageDescription: 44-Pin Thin Quad Flat Pack 0.8 mm Pitch; ComponentLink1Description: Manufacturer Link; ComponentLink1URL: http://www.latticesemi.com/products/mature/index.cfm; ComponentLink2Description: Datasheet; ComponentLink2URL: http://www.latticesemi.com/lit/docs/datasheets/cpld/mach4.pdf
footprint TQFP44_N (Thin QFP, 44-Leads, Body 10x10mm, Pitch 0.8mm, IPC Medium Density)
footprint TQFP44_L (Thin QFP, 44-Leads, Body 10x10mm, Pitch 0.8mm, IPC High Density)
footprint TQFP44_M (Thin QFP, 44-Leads, Body 10x10mm, Pitch 0.8mm, IPC Low Density)
3D model M4LV-TQFP44 (44-Pin Thin Quad Flat Pack 0.8 mm Pitch)
pins: 1 I/O5 A2 (io), 2 I/O6 A1 (io), 3 I/O7 A0 (io), 4 TDI (in), 5 CLK0/IN0 (in), 6 GND (power), 7 TCK (in), 8 I/O8 B0 (io), 9 I/O9 B1 (io), 10 I/O10 B2 (io), 11 I/O11 B3 (io), 12 I/O12 B4 (io), 13 I/O13 B5 (io), 14 I/O14 B6 (io), 15 I/O15 B7 (io), 16 VCC (power), 17 GND (power), 18 I/O16 C7 (io), 19 I/O17 C6 (io), 20 I/O18 C5 (io), 21 I/O19 C4 (io), 22 I/O20 C3 (io), 23 I/O21 C2 (io), 24 I/O22 C1 (io), 25 I/O23 C0 (io), 26 TMS (in), 27 CLK1/IN1 (in), 28 GND (power), 29 TDO (out), 30 I/O24 D0 (io), 31 I/O25 D1 (io), 32 I/O26 D2 (io), 33 I/O27 D3 (io), 34 I/O28 D4 (io), 35 I/O29 D5 (io), 36 I/O30 D6 (io), 37 I/O31 D7 (io), 38 VCC (power), 39 GND (power), 40 I/O0 A7 (io), 41 I/O1 A6 (io), 42 I/O2 A5 (io), 43 I/O3 A4 (io), 44 I/O4 A3 (io)
text: Block D; Block C; Block A; Block B

## M4LV-64/32-18VI48
designator U?
High-Performance EE CMOS In-System Programmable Logic; Published: 23-Sep-2002; LatestRevisionDate: 13-Apr-2006; LatestRevisionNote: IPC-7351 Footprint Added.; DatasheetVersion: Mar-2000; PackageVersion: pkg_32, Aug-2005; PackageReference: TQFP48; Publisher: Altium Limited; PackageDescription: 48-Pin Thin Quad Flat Pack 0.5 mm Pitch; ComponentLink1Description: Manufacturer Link; ComponentLink1URL: http://www.latticesemi.com/products/mature/index.cfm; ComponentLink2Description: Datasheet; ComponentLink2URL: http://www.latticesemi.com/lit/docs/datasheets/cpld/mach4.pdf
footprint TQFP48_N (Thin QFP, 48-Leads, Body 7x7mm, Pitch 0.5mm, IPC Medium Density)
footprint TQFP48_L (Thin QFP, 48-Leads, Body 7x7mm, Pitch 0.5mm, IPC High Density)
footprint TQFP48_M (Thin QFP, 48-Leads, Body 7x7mm, Pitch 0.5mm, IPC Low Density)
3D model M4LV-TQFP48 (48-Pin Thin Quad Flat Pack 0.5 mm Pitch)
pins: 1 I/O5 A2 (io), 2 I/O6 A1 (io), 3 I/O7 A0 (io), 4 TDI (in), 5 CLK0/IN0 (in), 6 NC, 7 GND (power), 8 TCK (in), 9 I/O8 B0 (io), 10 I/O9 B1 (io), 11 I/O10 B2 (io), 12 I/O11 B3 (io), 13 I/O12 B4 (io), 14 I/O13 B5 (io), 15 I/O14 B6 (io), 16 I/O15 B7 (io), 17 VCC (power), 18 NC, 19 GND (power), 20 I/O16 C7 (io), 21 I/O17 C6 (io), 22 I/O18 C5 (io), 23 I/O19 C4 (io), 24 I/O20 C3 (io), 25 I/O21 C2 (io), 26 I/O22 C1 (io), 27 I/O23 C0 (io), 28 TMS (in), 29 CLK1/IN1 (in), 30 NC, 31 GND (power), 32 TDO (out), 33 I/O24 D0 (io), 34 I/O25 D1 (io), 35 I/O26 D2 (io), 36 I/O27 D3 (io), 37 I/O28 D4 (io), 38 I/O29 D5 (io), 39 I/O30 D6 (io), 40 I/O31 D7 (io), 41 VCC (power), 42 NC, 43 GND (power), 44 I/O0 A7 (io), 45 I/O1 A6 (io), 46 I/O2 A5 (io), 47 I/O3 A4 (io), 48 I/O4 A3 (io)
text: Block D; Block C; Block A; Block B

## M4LV-96/48-7VC
designator U?
High-Performance EE CMOS In-System Programmable Logic; Published: 23-Sep-2002; LatestRevisionDate: 13-Apr-2006; LatestRevisionNote: IPC-7351 Footprint Added.; DatasheetVersion: Mar-2000; PackageVersion: pkg_32, Aug-2005; PackageReference: TQFP100; Publisher: Altium Limited; PackageDescription: 100-Pin Thin Quad Flat Pack (TQFP100); Code_JEDEC: MS-026-BED; ComponentLink1Description: Manufacturer Link; ComponentLink1URL: http://www.latticesemi.com/products/mature/index.cfm; ComponentLink2Description: Datasheet; ComponentLink2URL: http://www.latticesemi.com/lit/docs/datasheets/cpld/mach4.pdf
footprint TQFP100_N (Thin QFP, 100-Leads, Body 14x14mm, Pitch 0.5mm, IPC Medium Density)
footprint TQFP100_L (Thin QFP, 100-Leads, Body 14x14mm, Pitch 0.5mm, IPC High Density)
footprint TQFP100_M (Thin QFP, 100-Leads, Body 14x14mm, Pitch 0.5mm, IPC Low Density)
3D model M4LV-TQFP100 (100-Pin Thin Quad Flat Pack (TQFP100))
pins: 1 NC, 2 TDI (in), 3 NC, 4 NC, 5 I/O6 A1 (io), 6 I/O7 A0 (io), 7 I/O8 B0 (io), 8 I/O9 B1 (io), 9 I/O10 B2 (io), 10 I/O11 B3 (io), 11 I0/CLK0 (in), 12 VCC (power), 13 GND (power), 14 I1/CLK1 (in), 15 I/O12 B4 (io), 16 I/O13 B5 (io), 17 I/O14 B6 (io), 18 I/O15 B7 (io), 19 I/O16 C0 (io), 20 I/O17 C1 (io), 21 NC, 22 NC, 23 TMS (in), 24 TCK (in), 25 NC, 26 GND (power), 27 NC, 28 NC, 29 I/O18 C2 (io), 30 I/O19 C3 (io), 31 I/O20 C4 (io), 32 I/O21 C5 (io), 33 I/O22 C6 (io), 34 I/O23 C7 (io), 35 NC, 36 I2 (in), 37 NC, 38 NC, 39 GND (power), 40 VCC (power), 41 I3 (in), 42 I/O24 D7 (io), 43 I/O25 D6 (io), 44 I/O26 D5 (io), 45 I/O27 D4 (io), 46 I/O28 D3 (io), 47 I/O29 D2 (io), 48 NC, 49 NC, 50 GND (power), 51 NC, 52 NC, 53 NC, 54 NC, 55 I/O30 D1 (io), 56 I/O31 D0 (io), 57 I/O32 E7 (io), 58 I/O33 E6 (io), 59 I/O34 E5 (io), 60 I/O35 E4 (io), 61 I4/CLK2 (in), 62 VCC (power), 63 GND (power), 64 I5/CLK3 (in), 65 I/O36 E3 (io), 66 I/O37 E2 (io), 67 I/O38 E1 (io), 68 I/O39 E0 (io), 69 I/O40 F0 (io), 70 I/O41 F1 (io), 71 NC, 72 NC, 73 NC, 74 TDO (out), 75 NC, 76 GND (power), 77 NC, 78 NC, 79 I/O42 F2 (io), 80 I/O43 F3 (io), 81 I/O44 F4 (io), 82 I/O45 F5 (io), 83 I/O46 F6 (io), 84 I/O47 F7 (io), 85 NC, 86 I6 (in), 87 NC, 88 NC, 89 GND (power), 90 VCC (power), 91 I7 (in), 92 I/O0 A7 (io), 93 I/O1 A6 (io), 94 I/O2 A5 (io), 95 I/O3 A4 (io), 96 I/O4 A3 (io), 97 I/O5 A2 (io), 98 NC, 99 NC, 100 GND (power)
text: Block A; Block F; Block B; Block E; Block C; Block D

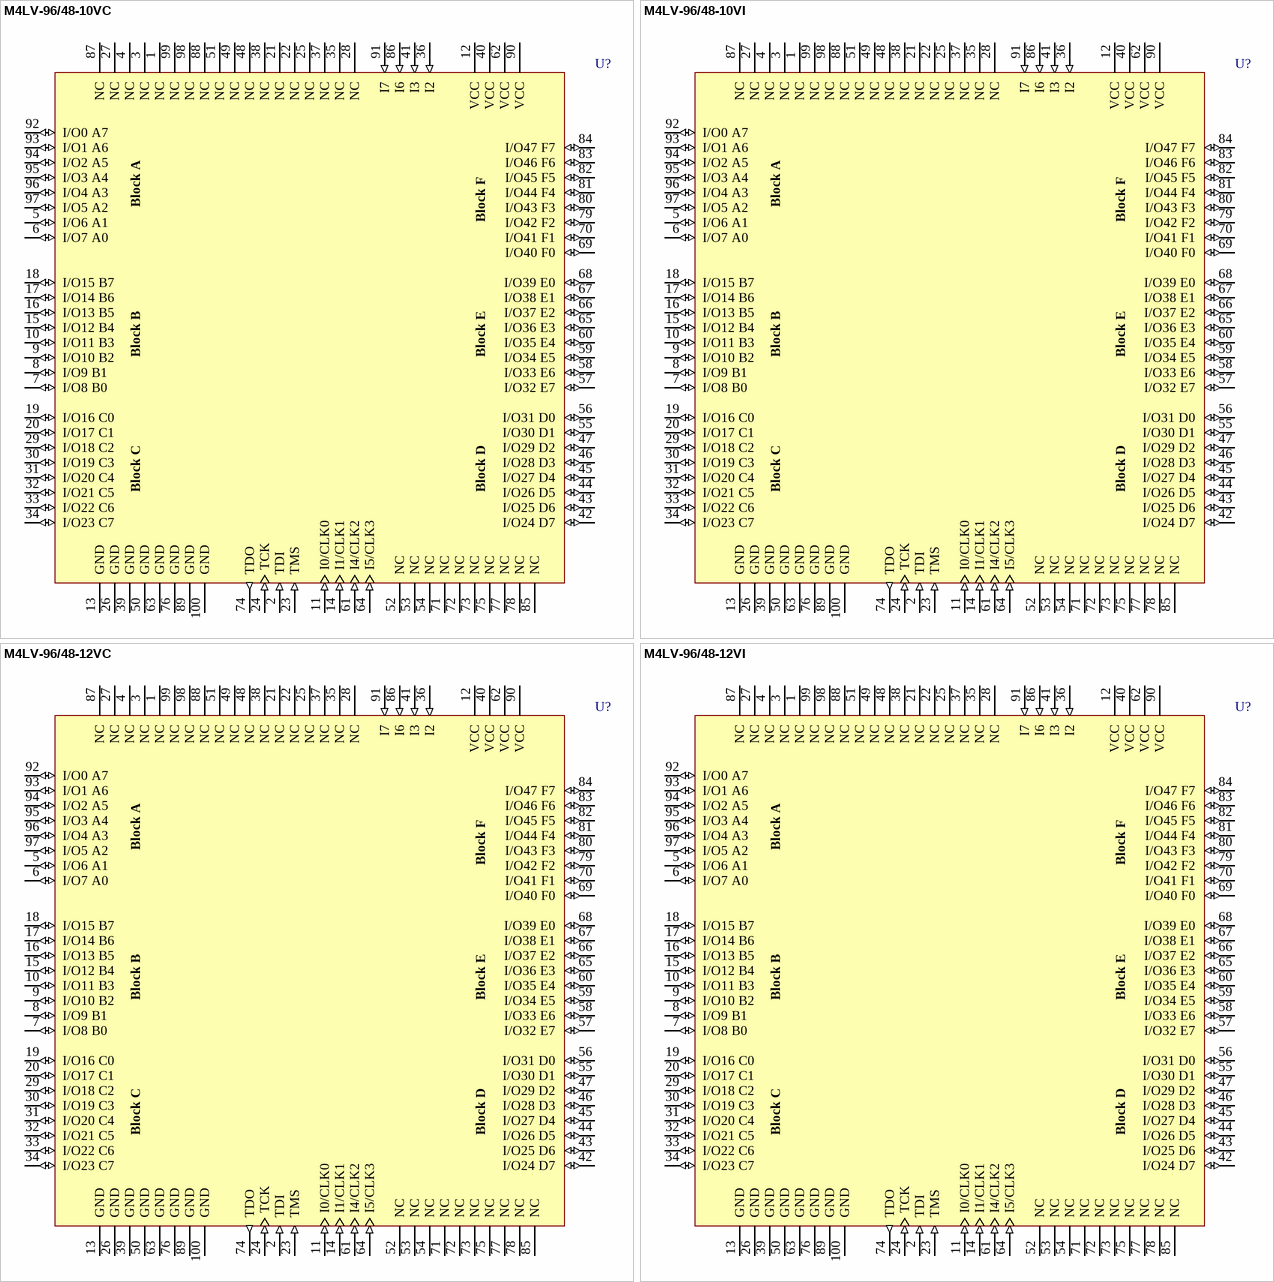
[diagram p135: symbols M4LV-96/48-10VC to M4LV-96/48-12VI]

## M4LV-96/48-10VC
designator U?
High-Performance EE CMOS In-System Programmable Logic; Published: 23-Sep-2002; LatestRevisionDate: 13-Apr-2006; LatestRevisionNote: IPC-7351 Footprint Added.; DatasheetVersion: Mar-2000; PackageVersion: pkg_32, Aug-2005; PackageReference: TQFP100; Publisher: Altium Limited; PackageDescription: 100-Pin Thin Quad Flat Pack (TQFP100); Code_JEDEC: MS-026-BED; ComponentLink1Description: Manufacturer Link; ComponentLink1URL: http://www.latticesemi.com/products/mature/index.cfm; ComponentLink2Description: Datasheet; ComponentLink2URL: http://www.latticesemi.com/lit/docs/datasheets/cpld/mach4.pdf
footprint TQFP100_N (Thin QFP, 100-Leads, Body 14x14mm, Pitch 0.5mm, IPC Medium Density)
footprint TQFP100_L (Thin QFP, 100-Leads, Body 14x14mm, Pitch 0.5mm, IPC High Density)
footprint TQFP100_M (Thin QFP, 100-Leads, Body 14x14mm, Pitch 0.5mm, IPC Low Density)
3D model M4LV-TQFP100 (100-Pin Thin Quad Flat Pack (TQFP100))
pins: 1 NC, 2 TDI (in), 3 NC, 4 NC, 5 I/O6 A1 (io), 6 I/O7 A0 (io), 7 I/O8 B0 (io), 8 I/O9 B1 (io), 9 I/O10 B2 (io), 10 I/O11 B3 (io), 11 I0/CLK0 (in), 12 VCC (power), 13 GND (power), 14 I1/CLK1 (in), 15 I/O12 B4 (io), 16 I/O13 B5 (io), 17 I/O14 B6 (io), 18 I/O15 B7 (io), 19 I/O16 C0 (io), 20 I/O17 C1 (io), 21 NC, 22 NC, 23 TMS (in), 24 TCK (in), 25 NC, 26 GND (power), 27 NC, 28 NC, 29 I/O18 C2 (io), 30 I/O19 C3 (io), 31 I/O20 C4 (io), 32 I/O21 C5 (io), 33 I/O22 C6 (io), 34 I/O23 C7 (io), 35 NC, 36 I2 (in), 37 NC, 38 NC, 39 GND (power), 40 VCC (power), 41 I3 (in), 42 I/O24 D7 (io), 43 I/O25 D6 (io), 44 I/O26 D5 (io), 45 I/O27 D4 (io), 46 I/O28 D3 (io), 47 I/O29 D2 (io), 48 NC, 49 NC, 50 GND (power), 51 NC, 52 NC, 53 NC, 54 NC, 55 I/O30 D1 (io), 56 I/O31 D0 (io), 57 I/O32 E7 (io), 58 I/O33 E6 (io), 59 I/O34 E5 (io), 60 I/O35 E4 (io), 61 I4/CLK2 (in), 62 VCC (power), 63 GND (power), 64 I5/CLK3 (in), 65 I/O36 E3 (io), 66 I/O37 E2 (io), 67 I/O38 E1 (io), 68 I/O39 E0 (io), 69 I/O40 F0 (io), 70 I/O41 F1 (io), 71 NC, 72 NC, 73 NC, 74 TDO (out), 75 NC, 76 GND (power), 77 NC, 78 NC, 79 I/O42 F2 (io), 80 I/O43 F3 (io), 81 I/O44 F4 (io), 82 I/O45 F5 (io), 83 I/O46 F6 (io), 84 I/O47 F7 (io), 85 NC, 86 I6 (in), 87 NC, 88 NC, 89 GND (power), 90 VCC (power), 91 I7 (in), 92 I/O0 A7 (io), 93 I/O1 A6 (io), 94 I/O2 A5 (io), 95 I/O3 A4 (io), 96 I/O4 A3 (io), 97 I/O5 A2 (io), 98 NC, 99 NC, 100 GND (power)
text: Block A; Block F; Block B; Block E; Block C; Block D

## M4LV-96/48-10VI
designator U?
High-Performance EE CMOS In-System Programmable Logic; Published: 23-Sep-2002; LatestRevisionDate: 13-Apr-2006; LatestRevisionNote: IPC-7351 Footprint Added.; DatasheetVersion: Mar-2000; PackageVersion: pkg_32, Aug-2005; PackageReference: TQFP100; Publisher: Altium Limited; PackageDescription: 100-Pin Thin Quad Flat Pack (TQFP100); Code_JEDEC: MS-026-BED; ComponentLink1Description: Manufacturer Link; ComponentLink1URL: http://www.latticesemi.com/products/mature/index.cfm; ComponentLink2Description: Datasheet; ComponentLink2URL: http://www.latticesemi.com/lit/docs/datasheets/cpld/mach4.pdf
footprint TQFP100_N (Thin QFP, 100-Leads, Body 14x14mm, Pitch 0.5mm, IPC Medium Density)
footprint TQFP100_L (Thin QFP, 100-Leads, Body 14x14mm, Pitch 0.5mm, IPC High Density)
footprint TQFP100_M (Thin QFP, 100-Leads, Body 14x14mm, Pitch 0.5mm, IPC Low Density)
3D model M4LV-TQFP100 (100-Pin Thin Quad Flat Pack (TQFP100))
pins: 1 NC, 2 TDI (in), 3 NC, 4 NC, 5 I/O6 A1 (io), 6 I/O7 A0 (io), 7 I/O8 B0 (io), 8 I/O9 B1 (io), 9 I/O10 B2 (io), 10 I/O11 B3 (io), 11 I0/CLK0 (in), 12 VCC (power), 13 GND (power), 14 I1/CLK1 (in), 15 I/O12 B4 (io), 16 I/O13 B5 (io), 17 I/O14 B6 (io), 18 I/O15 B7 (io), 19 I/O16 C0 (io), 20 I/O17 C1 (io), 21 NC, 22 NC, 23 TMS (in), 24 TCK (in), 25 NC, 26 GND (power), 27 NC, 28 NC, 29 I/O18 C2 (io), 30 I/O19 C3 (io), 31 I/O20 C4 (io), 32 I/O21 C5 (io), 33 I/O22 C6 (io), 34 I/O23 C7 (io), 35 NC, 36 I2 (in), 37 NC, 38 NC, 39 GND (power), 40 VCC (power), 41 I3 (in), 42 I/O24 D7 (io), 43 I/O25 D6 (io), 44 I/O26 D5 (io), 45 I/O27 D4 (io), 46 I/O28 D3 (io), 47 I/O29 D2 (io), 48 NC, 49 NC, 50 GND (power), 51 NC, 52 NC, 53 NC, 54 NC, 55 I/O30 D1 (io), 56 I/O31 D0 (io), 57 I/O32 E7 (io), 58 I/O33 E6 (io), 59 I/O34 E5 (io), 60 I/O35 E4 (io), 61 I4/CLK2 (in), 62 VCC (power), 63 GND (power), 64 I5/CLK3 (in), 65 I/O36 E3 (io), 66 I/O37 E2 (io), 67 I/O38 E1 (io), 68 I/O39 E0 (io), 69 I/O40 F0 (io), 70 I/O41 F1 (io), 71 NC, 72 NC, 73 NC, 74 TDO (out), 75 NC, 76 GND (power), 77 NC, 78 NC, 79 I/O42 F2 (io), 80 I/O43 F3 (io), 81 I/O44 F4 (io), 82 I/O45 F5 (io), 83 I/O46 F6 (io), 84 I/O47 F7 (io), 85 NC, 86 I6 (in), 87 NC, 88 NC, 89 GND (power), 90 VCC (power), 91 I7 (in), 92 I/O0 A7 (io), 93 I/O1 A6 (io), 94 I/O2 A5 (io), 95 I/O3 A4 (io), 96 I/O4 A3 (io), 97 I/O5 A2 (io), 98 NC, 99 NC, 100 GND (power)
text: Block A; Block F; Block B; Block E; Block C; Block D

## M4LV-96/48-12VC
designator U?
High-Performance EE CMOS In-System Programmable Logic; Published: 23-Sep-2002; LatestRevisionDate: 13-Apr-2006; LatestRevisionNote: IPC-7351 Footprint Added.; DatasheetVersion: Mar-2000; PackageVersion: pkg_32, Aug-2005; PackageReference: TQFP100; Publisher: Altium Limited; PackageDescription: 100-Pin Thin Quad Flat Pack (TQFP100); Code_JEDEC: MS-026-BED; ComponentLink1Description: Manufacturer Link; ComponentLink1URL: http://www.latticesemi.com/products/mature/index.cfm; ComponentLink2Description: Datasheet; ComponentLink2URL: http://www.latticesemi.com/lit/docs/datasheets/cpld/mach4.pdf
footprint TQFP100_N (Thin QFP, 100-Leads, Body 14x14mm, Pitch 0.5mm, IPC Medium Density)
footprint TQFP100_L (Thin QFP, 100-Leads, Body 14x14mm, Pitch 0.5mm, IPC High Density)
footprint TQFP100_M (Thin QFP, 100-Leads, Body 14x14mm, Pitch 0.5mm, IPC Low Density)
3D model M4LV-TQFP100 (100-Pin Thin Quad Flat Pack (TQFP100))
pins: 1 NC, 2 TDI (in), 3 NC, 4 NC, 5 I/O6 A1 (io), 6 I/O7 A0 (io), 7 I/O8 B0 (io), 8 I/O9 B1 (io), 9 I/O10 B2 (io), 10 I/O11 B3 (io), 11 I0/CLK0 (in), 12 VCC (power), 13 GND (power), 14 I1/CLK1 (in), 15 I/O12 B4 (io), 16 I/O13 B5 (io), 17 I/O14 B6 (io), 18 I/O15 B7 (io), 19 I/O16 C0 (io), 20 I/O17 C1 (io), 21 NC, 22 NC, 23 TMS (in), 24 TCK (in), 25 NC, 26 GND (power), 27 NC, 28 NC, 29 I/O18 C2 (io), 30 I/O19 C3 (io), 31 I/O20 C4 (io), 32 I/O21 C5 (io), 33 I/O22 C6 (io), 34 I/O23 C7 (io), 35 NC, 36 I2 (in), 37 NC, 38 NC, 39 GND (power), 40 VCC (power), 41 I3 (in), 42 I/O24 D7 (io), 43 I/O25 D6 (io), 44 I/O26 D5 (io), 45 I/O27 D4 (io), 46 I/O28 D3 (io), 47 I/O29 D2 (io), 48 NC, 49 NC, 50 GND (power), 51 NC, 52 NC, 53 NC, 54 NC, 55 I/O30 D1 (io), 56 I/O31 D0 (io), 57 I/O32 E7 (io), 58 I/O33 E6 (io), 59 I/O34 E5 (io), 60 I/O35 E4 (io), 61 I4/CLK2 (in), 62 VCC (power), 63 GND (power), 64 I5/CLK3 (in), 65 I/O36 E3 (io), 66 I/O37 E2 (io), 67 I/O38 E1 (io), 68 I/O39 E0 (io), 69 I/O40 F0 (io), 70 I/O41 F1 (io), 71 NC, 72 NC, 73 NC, 74 TDO (out), 75 NC, 76 GND (power), 77 NC, 78 NC, 79 I/O42 F2 (io), 80 I/O43 F3 (io), 81 I/O44 F4 (io), 82 I/O45 F5 (io), 83 I/O46 F6 (io), 84 I/O47 F7 (io), 85 NC, 86 I6 (in), 87 NC, 88 NC, 89 GND (power), 90 VCC (power), 91 I7 (in), 92 I/O0 A7 (io), 93 I/O1 A6 (io), 94 I/O2 A5 (io), 95 I/O3 A4 (io), 96 I/O4 A3 (io), 97 I/O5 A2 (io), 98 NC, 99 NC, 100 GND (power)
text: Block A; Block F; Block B; Block E; Block C; Block D

## M4LV-96/48-12VI
designator U?
High-Performance EE CMOS In-System Programmable Logic; Published: 23-Sep-2002; LatestRevisionDate: 13-Apr-2006; LatestRevisionNote: IPC-7351 Footprint Added.; DatasheetVersion: Mar-2000; PackageVersion: pkg_32, Aug-2005; PackageReference: TQFP100; Publisher: Altium Limited; PackageDescription: 100-Pin Thin Quad Flat Pack (TQFP100); Code_JEDEC: MS-026-BED; ComponentLink1Description: Manufacturer Link; ComponentLink1URL: http://www.latticesemi.com/products/mature/index.cfm; ComponentLink2Description: Datasheet; ComponentLink2URL: http://www.latticesemi.com/lit/docs/datasheets/cpld/mach4.pdf
footprint TQFP100_N (Thin QFP, 100-Leads, Body 14x14mm, Pitch 0.5mm, IPC Medium Density)
footprint TQFP100_L (Thin QFP, 100-Leads, Body 14x14mm, Pitch 0.5mm, IPC High Density)
footprint TQFP100_M (Thin QFP, 100-Leads, Body 14x14mm, Pitch 0.5mm, IPC Low Density)
3D model M4LV-TQFP100 (100-Pin Thin Quad Flat Pack (TQFP100))
pins: 1 NC, 2 TDI (in), 3 NC, 4 NC, 5 I/O6 A1 (io), 6 I/O7 A0 (io), 7 I/O8 B0 (io), 8 I/O9 B1 (io), 9 I/O10 B2 (io), 10 I/O11 B3 (io), 11 I0/CLK0 (in), 12 VCC (power), 13 GND (power), 14 I1/CLK1 (in), 15 I/O12 B4 (io), 16 I/O13 B5 (io), 17 I/O14 B6 (io), 18 I/O15 B7 (io), 19 I/O16 C0 (io), 20 I/O17 C1 (io), 21 NC, 22 NC, 23 TMS (in), 24 TCK (in), 25 NC, 26 GND (power), 27 NC, 28 NC, 29 I/O18 C2 (io), 30 I/O19 C3 (io), 31 I/O20 C4 (io), 32 I/O21 C5 (io), 33 I/O22 C6 (io), 34 I/O23 C7 (io), 35 NC, 36 I2 (in), 37 NC, 38 NC, 39 GND (power), 40 VCC (power), 41 I3 (in), 42 I/O24 D7 (io), 43 I/O25 D6 (io), 44 I/O26 D5 (io), 45 I/O27 D4 (io), 46 I/O28 D3 (io), 47 I/O29 D2 (io), 48 NC, 49 NC, 50 GND (power), 51 NC, 52 NC, 53 NC, 54 NC, 55 I/O30 D1 (io), 56 I/O31 D0 (io), 57 I/O32 E7 (io), 58 I/O33 E6 (io), 59 I/O34 E5 (io), 60 I/O35 E4 (io), 61 I4/CLK2 (in), 62 VCC (power), 63 GND (power), 64 I5/CLK3 (in), 65 I/O36 E3 (io), 66 I/O37 E2 (io), 67 I/O38 E1 (io), 68 I/O39 E0 (io), 69 I/O40 F0 (io), 70 I/O41 F1 (io), 71 NC, 72 NC, 73 NC, 74 TDO (out), 75 NC, 76 GND (power), 77 NC, 78 NC, 79 I/O42 F2 (io), 80 I/O43 F3 (io), 81 I/O44 F4 (io), 82 I/O45 F5 (io), 83 I/O46 F6 (io), 84 I/O47 F7 (io), 85 NC, 86 I6 (in), 87 NC, 88 NC, 89 GND (power), 90 VCC (power), 91 I7 (in), 92 I/O0 A7 (io), 93 I/O1 A6 (io), 94 I/O2 A5 (io), 95 I/O3 A4 (io), 96 I/O4 A3 (io), 97 I/O5 A2 (io), 98 NC, 99 NC, 100 GND (power)
text: Block A; Block F; Block B; Block E; Block C; Block D

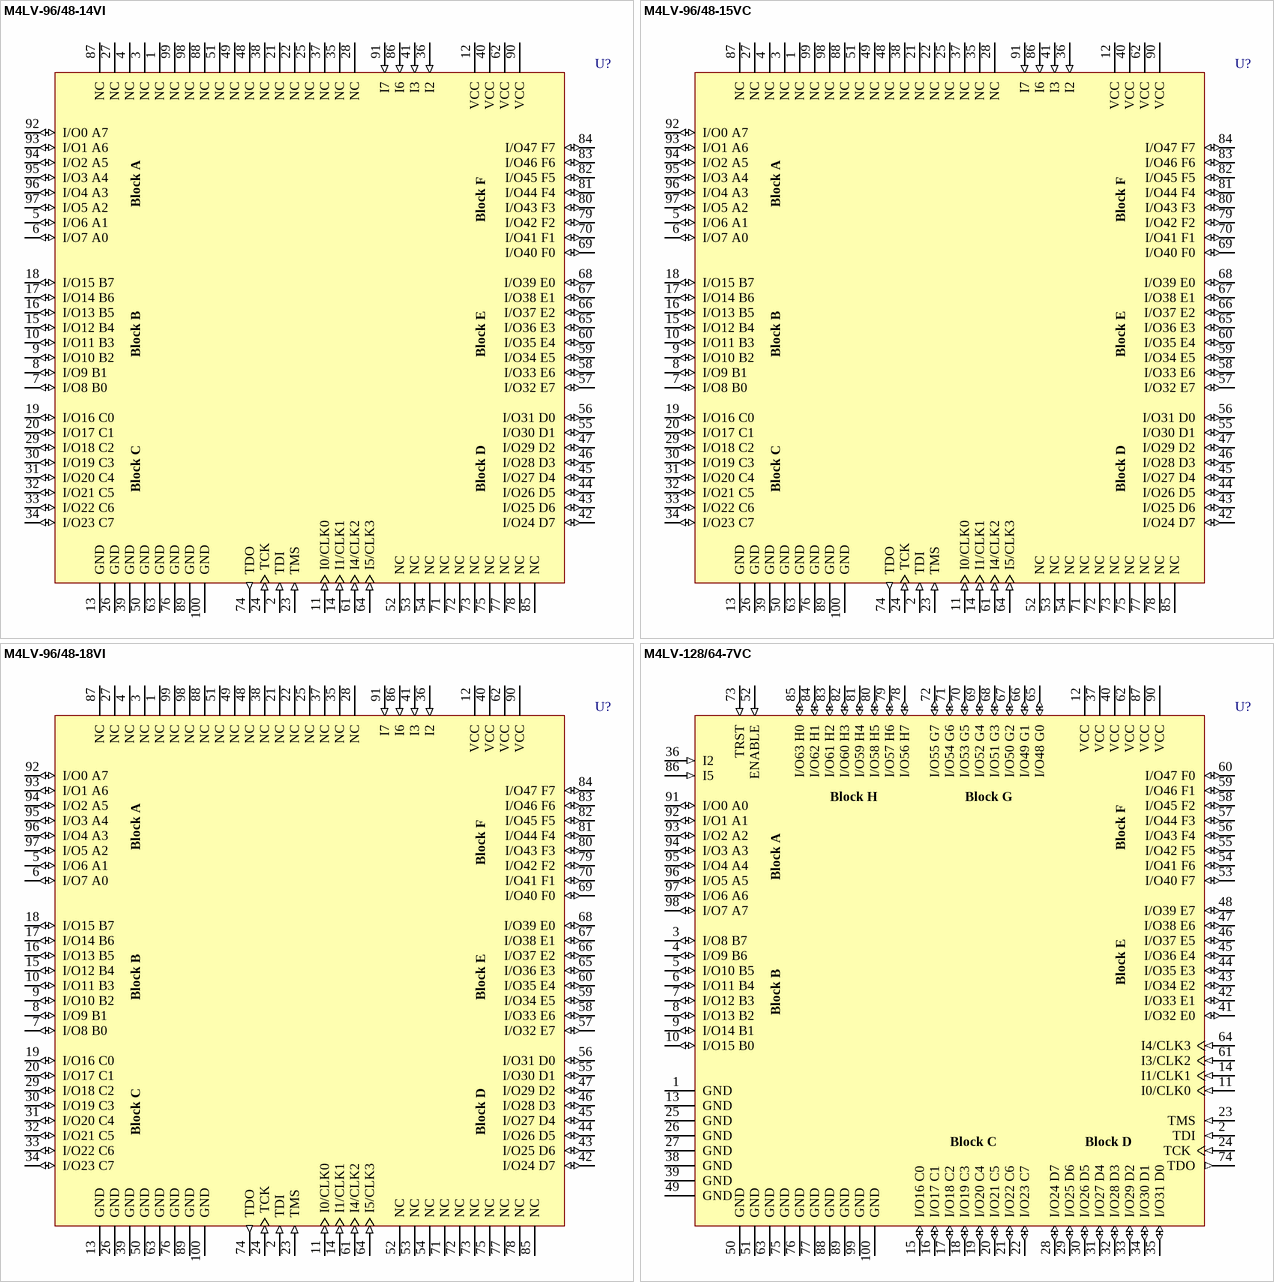
[diagram p136: symbols M4LV-96/48-14VI to M4LV-128/64-7VC]